# Altium schematic symbol library TI Microcontroller 32-Bit ARM.SchLib: 163 symbols (part 2 of 10)
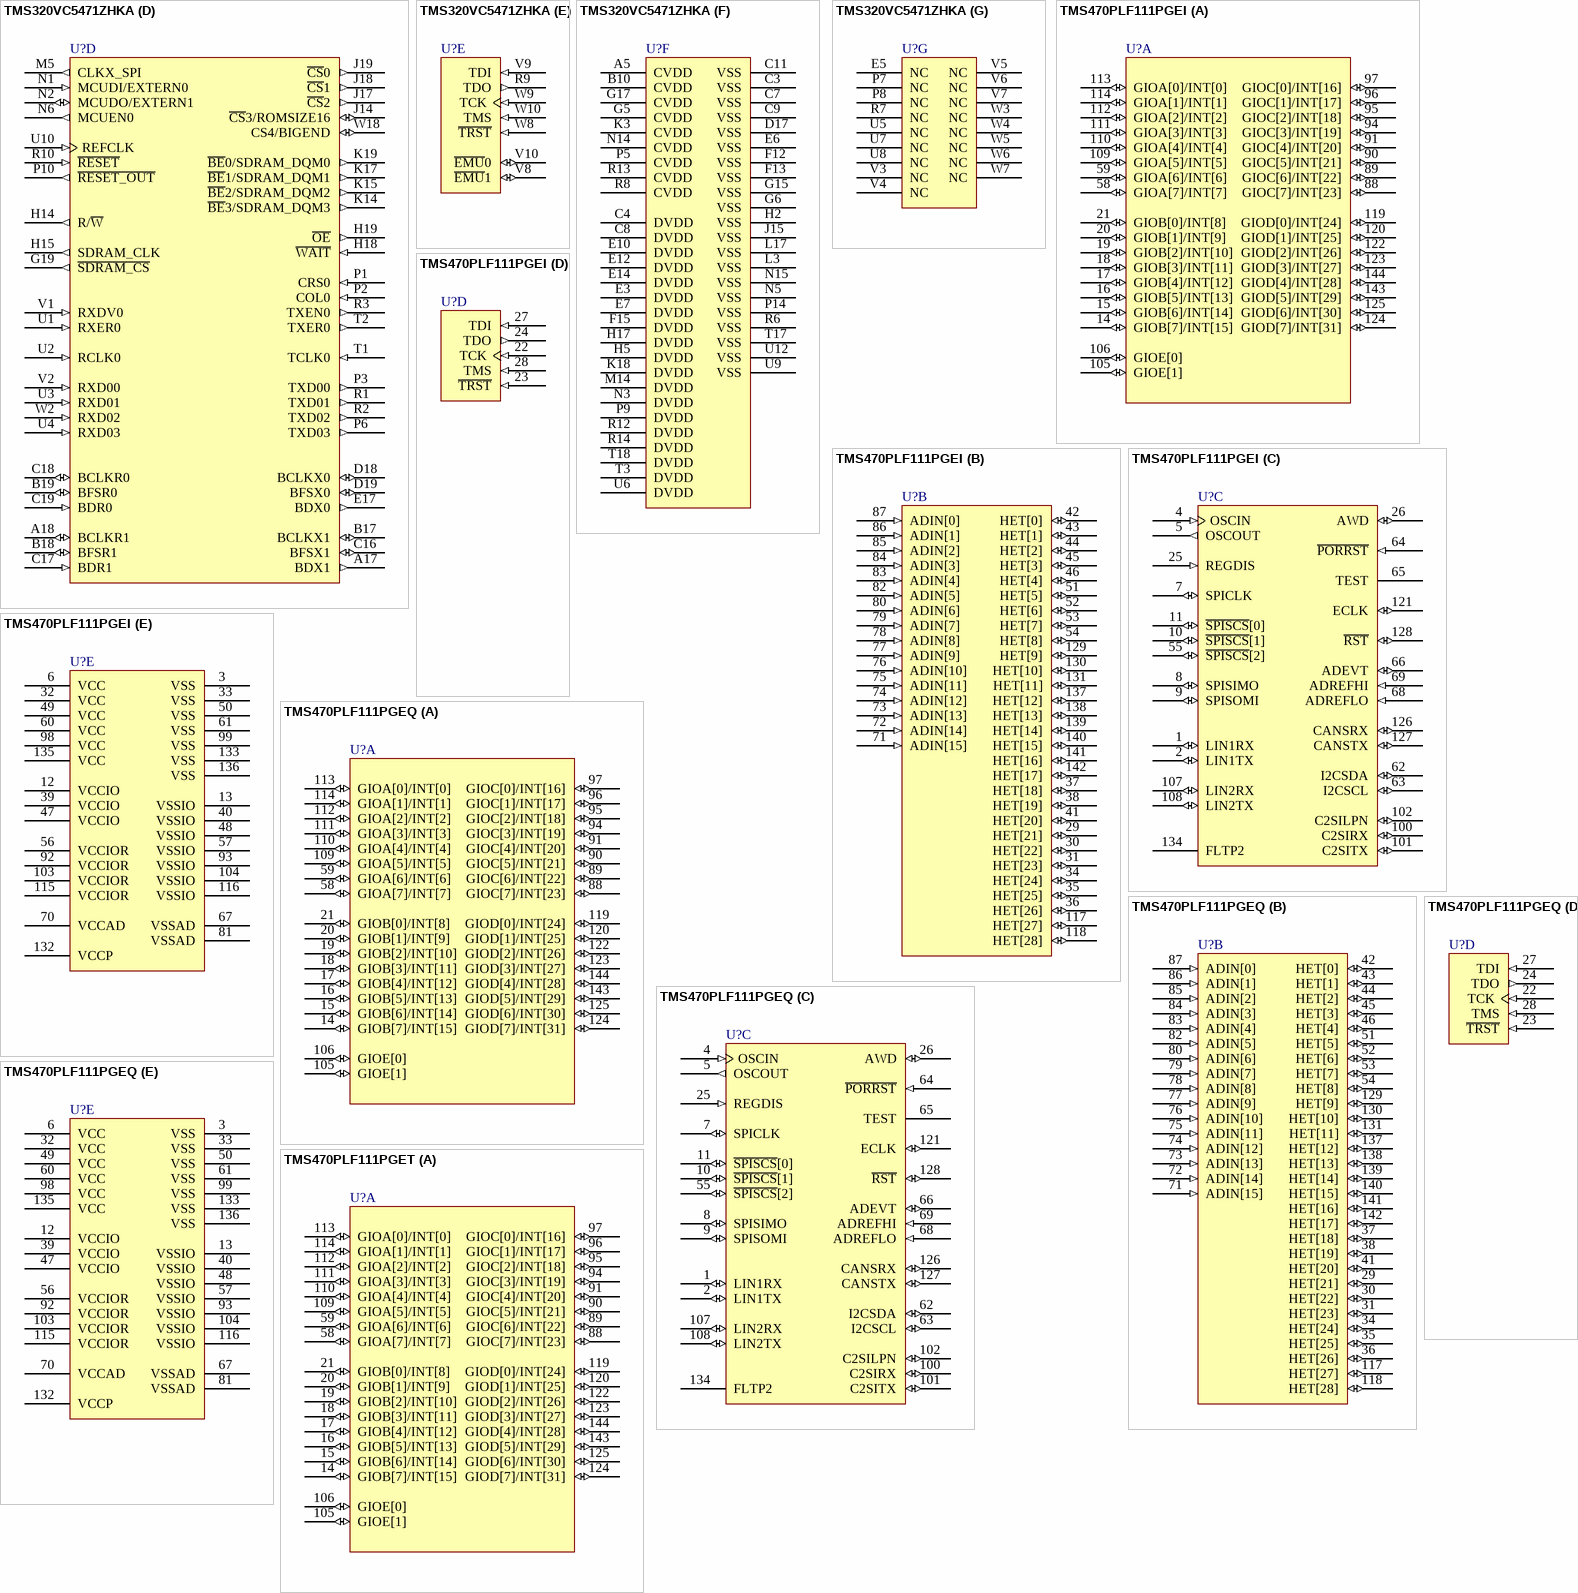
[diagram p53: symbols TMS320VC5471ZHKA to TMS470PLF111PGET]

## TMS470PLF111PGEQ
designator U?
ARM7TDMI 16/32-Bit RISC Automotive MCU, 128KB Flash, 8KB SRAM, 144-pin LQFP, -40ºC to 125ºC, Pb-Free; Published: 30-Mar-2007; DatasheetVersion: Oct-2006; PackageVersion: Dec-1996; PackageReference: PGE144; Publisher: Altium Limited; PackageDescription: 144-Pin Thin Quad Flat Pack 0.5 mm Pitch; ComponentLink1Description: Manufacturer Link; ComponentLink1URL: http://www.ti.com/; ComponentLink2Description: Datasheet; ComponentLink2URL: http://focus.ti.com/lit/ds/symlink/tms470plf111.pdf
footprint PGE144_N (Thin QFP, 144-Leads, Body 20x20mm, Pitch 0.5mm, IPC Medium Density)
footprint PGE144_L (Thin QFP, 144-Leads, Body 20x20mm, Pitch 0.5mm, IPC High Density)
footprint PGE144_M (Thin QFP, 144-Leads, Body 20x20mm, Pitch 0.5mm, IPC Low Density)
part A pins: 14 GIOB[7]/INT[15] (io), 15 GIOB[6]/INT[14] (io), 16 GIOB[5]/INT[13] (io), 17 GIOB[4]/INT[12] (io), 18 GIOB[3]/INT[11] (io), 19 GIOB[2]/INT[10] (io), 20 GIOB[1]/INT[9] (io), 21 GIOB[0]/INT[8] (io), 58 GIOA[7]/INT[7] (io), 59 GIOA[6]/INT[6] (io), 88 GIOC[7]/INT[23] (io), 89 GIOC[6]/INT[22] (io), 90 GIOC[5]/INT[21] (io), 91 GIOC[4]/INT[20] (io), 94 GIOC[3]/INT[19] (io), 95 GIOC[2]/INT[18] (io), 96 GIOC[1]/INT[17] (io), 97 GIOC[0]/INT[16] (io), 105 GIOE[1] (io), 106 GIOE[0] (io), 109 GIOA[5]/INT[5] (io), 110 GIOA[4]/INT[4] (io), 111 GIOA[3]/INT[3] (io), 112 GIOA[2]/INT[2] (io), 113 GIOA[0]/INT[0] (io), 114 GIOA[1]/INT[1] (io), 119 GIOD[0]/INT[24] (io), 120 GIOD[1]/INT[25] (io), 122 GIOD[2]/INT[26] (io), 123 GIOD[3]/INT[27] (io), 124 GIOD[7]/INT[31] (io), 125 GIOD[6]/INT[30] (io), 143 GIOD[5]/INT[29] (io), 144 GIOD[4]/INT[28] (io)
part B pins: 29 HET[21] (io), 30 HET[22] (io), 31 HET[23] (io), 34 HET[24] (io), 35 HET[25] (io), 36 HET[26] (io), 37 HET[18] (io), 38 HET[19] (io), 41 HET[20] (io), 42 HET[0] (io), 43 HET[1] (io), 44 HET[2] (io), 45 HET[3] (io), 46 HET[4] (io), 51 HET[5] (io), 52 HET[6] (io), 53 HET[7] (io), 54 HET[8] (io), 71 ADIN[15] (in), 72 ADIN[14] (in), 73 ADIN[13] (in), 74 ADIN[12] (in), 75 ADIN[11] (in), 76 ADIN[10] (in), 77 ADIN[9] (in), 78 ADIN[8] (in), 79 ADIN[7] (in), 80 ADIN[6] (in), 82 ADIN[5] (in), 83 ADIN[4] (in), 84 ADIN[3] (in), 85 ADIN[2] (in), 86 ADIN[1] (in), 87 ADIN[0] (in), 117 HET[27] (io), 118 HET[28] (io), 129 HET[9] (io), 130 HET[10] (io), 131 HET[11] (io), 137 HET[12] (io), 138 HET[13] (io), 139 HET[14] (io), 140 HET[15] (io), 141 HET[16] (io), 142 HET[17] (io)
part C pins: 1 LIN1RX (io), 2 LIN1TX (io), 4 OSCIN (in), 5 OSCOUT (out), 7 SPICLK (io), 8 SPISIMO (io), 9 SPISOMI (io), 10 ~{SPISCS}[1] (io), 11 ~{SPISCS}[0] (io), 25 REGDIS (in), 26 AWD (io), 55 ~{SPISCS}[2] (io), 62 I2CSDA (io), 63 I2CSCL (io), 64 ~{PORRST} (in), 65 TEST, 66 ADEVT (io), 68 ADREFLO (in), 69 ADREFHI (in), 100 C2SIRX (io), 101 C2SITX (io), 102 C2SILPN (io), 107 LIN2RX (io), 108 LIN2TX (io), 121 ECLK (io), 126 CANSRX (io), 127 CANSTX (io), 128 ~{RST} (io), 134 FLTP2
part D pins: 22 TCK (in), 23 ~{TRST} (in), 24 TDO (out), 27 TDI (in), 28 TMS (in)
part E pins: 3 VSS (power), 6 VCC (power), 12 VCCIO (power), 13 VSSIO (power), 32 VCC (power), 33 VSS (power), 39 VCCIO (power), 40 VSSIO (power), 47 VCCIO (power), 48 VSSIO (power), 49 VCC (power), 50 VSS (power), 56 VCCIOR (power), 57 VSSIO (power), 60 VCC (power), 61 VSS (power), 67 VSSAD (power), 70 VCCAD (power), 81 VSSAD (power), 92 VCCIOR (power), 93 VSSIO (power), 98 VCC (power), 99 VSS (power), 103 VCCIOR (power), 104 VSSIO (power), 115 VCCIOR (power), 116 VSSIO (power), 132 VCCP (power), 133 VSS (power), 135 VCC (power), 136 VSS (power)

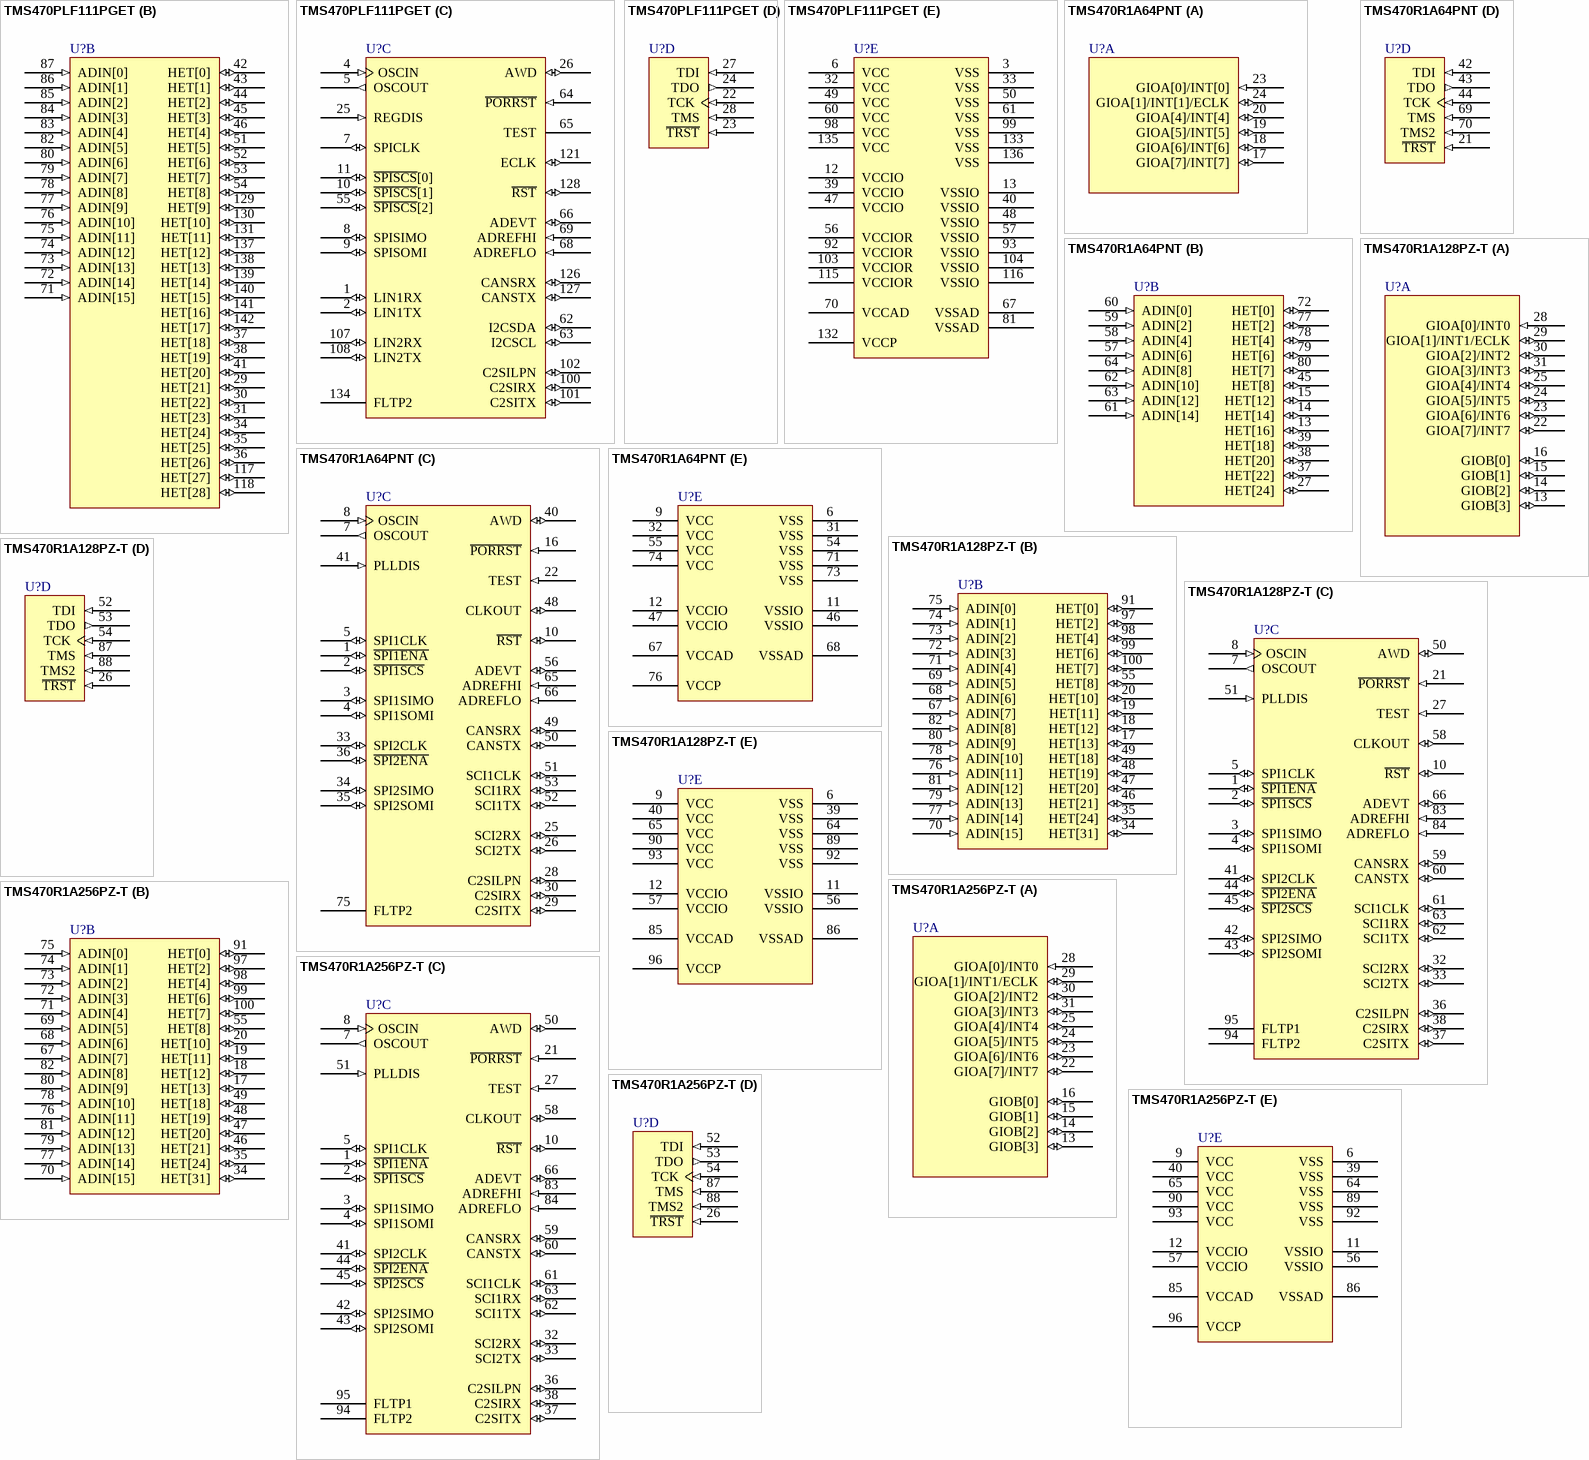
[diagram p6: symbols TMS470PLF111PGET to TMS470R1A256PZ-T]

## TMS470PLF111PGET
designator U?
ARM7TDMI 16/32-Bit RISC Automotive MCU, 128KB Flash, 8KB SRAM, 144-pin LQFP, -40ºC to 105ºC, Pb-Free; Published: 30-Mar-2007; DatasheetVersion: Oct-2006; PackageVersion: Dec-1996; PackageReference: PGE144; Publisher: Altium Limited; PackageDescription: 144-Pin Thin Quad Flat Pack 0.5 mm Pitch; ComponentLink1Description: Manufacturer Link; ComponentLink1URL: http://www.ti.com/; ComponentLink2Description: Datasheet; ComponentLink2URL: http://focus.ti.com/lit/ds/symlink/tms470plf111.pdf
footprint PGE144_N (Thin QFP, 144-Leads, Body 20x20mm, Pitch 0.5mm, IPC Medium Density)
footprint PGE144_L (Thin QFP, 144-Leads, Body 20x20mm, Pitch 0.5mm, IPC High Density)
footprint PGE144_M (Thin QFP, 144-Leads, Body 20x20mm, Pitch 0.5mm, IPC Low Density)
part A pins: 14 GIOB[7]/INT[15] (io), 15 GIOB[6]/INT[14] (io), 16 GIOB[5]/INT[13] (io), 17 GIOB[4]/INT[12] (io), 18 GIOB[3]/INT[11] (io), 19 GIOB[2]/INT[10] (io), 20 GIOB[1]/INT[9] (io), 21 GIOB[0]/INT[8] (io), 58 GIOA[7]/INT[7] (io), 59 GIOA[6]/INT[6] (io), 88 GIOC[7]/INT[23] (io), 89 GIOC[6]/INT[22] (io), 90 GIOC[5]/INT[21] (io), 91 GIOC[4]/INT[20] (io), 94 GIOC[3]/INT[19] (io), 95 GIOC[2]/INT[18] (io), 96 GIOC[1]/INT[17] (io), 97 GIOC[0]/INT[16] (io), 105 GIOE[1] (io), 106 GIOE[0] (io), 109 GIOA[5]/INT[5] (io), 110 GIOA[4]/INT[4] (io), 111 GIOA[3]/INT[3] (io), 112 GIOA[2]/INT[2] (io), 113 GIOA[0]/INT[0] (io), 114 GIOA[1]/INT[1] (io), 119 GIOD[0]/INT[24] (io), 120 GIOD[1]/INT[25] (io), 122 GIOD[2]/INT[26] (io), 123 GIOD[3]/INT[27] (io), 124 GIOD[7]/INT[31] (io), 125 GIOD[6]/INT[30] (io), 143 GIOD[5]/INT[29] (io), 144 GIOD[4]/INT[28] (io)
part B pins: 29 HET[21] (io), 30 HET[22] (io), 31 HET[23] (io), 34 HET[24] (io), 35 HET[25] (io), 36 HET[26] (io), 37 HET[18] (io), 38 HET[19] (io), 41 HET[20] (io), 42 HET[0] (io), 43 HET[1] (io), 44 HET[2] (io), 45 HET[3] (io), 46 HET[4] (io), 51 HET[5] (io), 52 HET[6] (io), 53 HET[7] (io), 54 HET[8] (io), 71 ADIN[15] (in), 72 ADIN[14] (in), 73 ADIN[13] (in), 74 ADIN[12] (in), 75 ADIN[11] (in), 76 ADIN[10] (in), 77 ADIN[9] (in), 78 ADIN[8] (in), 79 ADIN[7] (in), 80 ADIN[6] (in), 82 ADIN[5] (in), 83 ADIN[4] (in), 84 ADIN[3] (in), 85 ADIN[2] (in), 86 ADIN[1] (in), 87 ADIN[0] (in), 117 HET[27] (io), 118 HET[28] (io), 129 HET[9] (io), 130 HET[10] (io), 131 HET[11] (io), 137 HET[12] (io), 138 HET[13] (io), 139 HET[14] (io), 140 HET[15] (io), 141 HET[16] (io), 142 HET[17] (io)
part C pins: 1 LIN1RX (io), 2 LIN1TX (io), 4 OSCIN (in), 5 OSCOUT (out), 7 SPICLK (io), 8 SPISIMO (io), 9 SPISOMI (io), 10 ~{SPISCS}[1] (io), 11 ~{SPISCS}[0] (io), 25 REGDIS (in), 26 AWD (io), 55 ~{SPISCS}[2] (io), 62 I2CSDA (io), 63 I2CSCL (io), 64 ~{PORRST} (in), 65 TEST, 66 ADEVT (io), 68 ADREFLO (in), 69 ADREFHI (in), 100 C2SIRX (io), 101 C2SITX (io), 102 C2SILPN (io), 107 LIN2RX (io), 108 LIN2TX (io), 121 ECLK (io), 126 CANSRX (io), 127 CANSTX (io), 128 ~{RST} (io), 134 FLTP2
part D pins: 22 TCK (in), 23 ~{TRST} (in), 24 TDO (out), 27 TDI (in), 28 TMS (in)
part E pins: 3 VSS (power), 6 VCC (power), 12 VCCIO (power), 13 VSSIO (power), 32 VCC (power), 33 VSS (power), 39 VCCIO (power), 40 VSSIO (power), 47 VCCIO (power), 48 VSSIO (power), 49 VCC (power), 50 VSS (power), 56 VCCIOR (power), 57 VSSIO (power), 60 VCC (power), 61 VSS (power), 67 VSSAD (power), 70 VCCAD (power), 81 VSSAD (power), 92 VCCIOR (power), 93 VSSIO (power), 98 VCC (power), 99 VSS (power), 103 VCCIOR (power), 104 VSSIO (power), 115 VCCIOR (power), 116 VSSIO (power), 132 VCCP (power), 133 VSS (power), 135 VCC (power), 136 VSS (power)

## TMS470R1A64PNT
designator U?
ARM7TDMI 16/32-Bit RISC Industrial MCU, 64KB Flash, 8KB RAM, 80-pin LQFP, -40ºC to 105ºC, Pb-Free; Published: 30-Mar-2007; DatasheetVersion: Aug-2006; PackageVersion: Dec-1996; PackageReference: PN080; Publisher: Altium Limited; PackageDescription: 80-Pin Thin Quad Flat Pack 0.5 mm Pitch; ComponentLink1Description: Manufacturer Link; ComponentLink1URL: http://www.ti.com/; ComponentLink2Description: Datasheet; ComponentLink2URL: http://focus.ti.com/lit/ds/symlink/tms470r1a64.pdf
footprint PN080_N (Thin QFP, 80-Leads, Body 12x12mm, Pitch 0.5mm, IPC Medium Density)
footprint PN080_L (Thin QFP, 80-Leads, Body 12x12mm, Pitch 0.5mm, IPC High Density)
footprint PN080_M (Thin QFP, 80-Leads, Body 12x12mm, Pitch 0.5mm, IPC Low Density)
part A pins: 17 GIOA[7]/INT[7] (io), 18 GIOA[6]/INT[6] (io), 19 GIOA[5]/INT[5] (io), 20 GIOA[4]/INT[4] (io), 23 GIOA[0]/INT[0] (in), 24 GIOA[1]/INT[1]/ECLK (io)
part B pins: 13 HET[16] (io), 14 HET[14] (io), 15 HET[12] (io), 27 HET[24] (io), 37 HET[22] (io), 38 HET[20] (io), 39 HET[18] (io), 45 HET[8] (io), 57 ADIN[6] (in), 58 ADIN[4] (in), 59 ADIN[2] (in), 60 ADIN[0] (in), 61 ADIN[14] (in), 62 ADIN[10] (in), 63 ADIN[12] (in), 64 ADIN[8] (in), 72 HET[0] (io), 77 HET[2] (io), 78 HET[4] (io), 79 HET[6] (io), 80 HET[7] (io)
part C pins: 1 ~{SPI1ENA} (io), 2 ~{SPI1SCS} (io), 3 SPI1SIMO (io), 4 SPI1SOMI (io), 5 SPI1CLK (io), 7 OSCOUT (out), 8 OSCIN (in), 10 ~{RST} (io), 16 ~{PORRST} (in), 22 TEST (in), 25 SCI2RX (io), 26 SCI2TX (io), 28 C2SILPN (io), 29 C2SITX (io), 30 C2SIRX (io), 33 SPI2CLK (io), 34 SPI2SIMO (io), 35 SPI2SOMI (io), 36 ~{SPI2ENA} (io), 40 AWD (io), 41 PLLDIS (in), 48 CLKOUT (io), 49 CANSRX (io), 50 CANSTX (io), 51 SCI1CLK (io), 52 SCI1TX (io), 53 SCI1RX (io), 56 ADEVT (io), 65 ADREFHI (in), 66 ADREFLO (in), 75 FLTP2
part D pins: 21 ~{TRST} (in), 42 TDI (in), 43 TDO (out), 44 TCK (in), 69 TMS (in), 70 TMS2 (in)
part E pins: 6 VSS (power), 9 VCC (power), 11 VSSIO (power), 12 VCCIO (power), 31 VSS (power), 32 VCC (power), 46 VSSIO (power), 47 VCCIO (power), 54 VSS (power), 55 VCC (power), 67 VCCAD (power), 68 VSSAD (power), 71 VSS (power), 73 VSS (power), 74 VCC (power), 76 VCCP (power)

## TMS470R1A128PZ-T
designator U?
ARM7TDMI 16/32-Bit RISC Industrial MCU, 128KB Flash, 8KB RAM, 100-pin LQFP, -40ºC to 105ºC, Pb-Free; Published: 30-Mar-2007; DatasheetVersion: Aug-2006; PackageVersion: Dec-1996; PackageReference: PZ100; Publisher: Altium Limited; PackageDescription: 100-Pin Thin Quad Flat Pack 0.5 mm Pitch; ComponentLink1Description: Manufacturer Link; ComponentLink1URL: http://www.ti.com/; ComponentLink2Description: Datasheet; ComponentLink2URL: http://focus.ti.com/lit/ds/symlink/tms470r1a128.pdf
footprint PZ100_N (Thin QFP, 100-Leads, Body 14x14mm, Pitch 0.5mm, IPC Medium Density)
footprint PZ100_L (Thin QFP, 100-Leads, Body 14x14mm, Pitch 0.5mm, IPC High Density)
footprint PZ100_M (Thin QFP, 100-Leads, Body 14x14mm, Pitch 0.5mm, IPC Low Density)
part A pins: 13 GIOB[3] (io), 14 GIOB[2] (io), 15 GIOB[1] (io), 16 GIOB[0] (io), 22 GIOA[7]/INT7 (io), 23 GIOA[6]/INT6 (io), 24 GIOA[5]/INT5 (io), 25 GIOA[4]/INT4 (io), 28 GIOA[0]/INT0 (in), 29 GIOA[1]/INT1/ECLK (io), 30 GIOA[2]/INT2 (io), 31 GIOA[3]/INT3 (io)
part B pins: 17 HET[13] (io), 18 HET[12] (io), 19 HET[11] (io), 20 HET[10] (io), 34 HET[31] (io), 35 HET[24] (io), 46 HET[21] (io), 47 HET[20] (io), 48 HET[19] (io), 49 HET[18] (io), 55 HET[8] (io), 67 ADIN[7] (in), 68 ADIN[6] (in), 69 ADIN[5] (in), 70 ADIN[15] (in), 71 ADIN[4] (in), 72 ADIN[3] (in), 73 ADIN[2] (in), 74 ADIN[1] (in), 75 ADIN[0] (in), 76 ADIN[11] (in), 77 ADIN[14] (in), 78 ADIN[10] (in), 79 ADIN[13] (in), 80 ADIN[9] (in), 81 ADIN[12] (in), 82 ADIN[8] (in), 91 HET[0] (io), 97 HET[2] (io), 98 HET[4] (io), 99 HET[6] (io), 100 HET[7] (io)
part C pins: 1 ~{SPI1ENA} (io), 2 ~{SPI1SCS} (io), 3 SPI1SIMO (io), 4 SPI1SOMI (io), 5 SPI1CLK (io), 7 OSCOUT (out), 8 OSCIN (in), 10 ~{RST} (io), 21 ~{PORRST} (in), 27 TEST (in), 32 SCI2RX (io), 33 SCI2TX (io), 36 C2SILPN (io), 37 C2SITX (io), 38 C2SIRX (io), 41 SPI2CLK (io), 42 SPI2SIMO (io), 43 SPI2SOMI (io), 44 ~{SPI2ENA} (io), 45 ~{SPI2SCS} (io), 50 AWD (io), 51 PLLDIS (in), 58 CLKOUT (io), 59 CANSRX (io), 60 CANSTX (io), 61 SCI1CLK (io), 62 SCI1TX (io), 63 SCI1RX (io), 66 ADEVT (io), 83 ADREFHI (in), 84 ADREFLO (in), 94 FLTP2, 95 FLTP1
part D pins: 26 ~{TRST} (in), 52 TDI (in), 53 TDO (out), 54 TCK (in), 87 TMS (in), 88 TMS2 (in)
part E pins: 6 VSS (power), 9 VCC (power), 11 VSSIO (power), 12 VCCIO (power), 39 VSS (power), 40 VCC (power), 56 VSSIO (power), 57 VCCIO (power), 64 VSS (power), 65 VCC (power), 85 VCCAD (power), 86 VSSAD (power), 89 VSS (power), 90 VCC (power), 92 VSS (power), 93 VCC (power), 96 VCCP (power)

## TMS470R1A256PZ-T
designator U?
ARM7TDMI 16/32-Bit RISC Industrial MCU, 256KB Flash, 12KB RAM, 100-pin LQFP, -40ºC to 105ºC, Pb-Free; Note: This device has logic and registers for 32-I/O HET implementation, however not all are available on external pins.; Published: 30-Mar-2007; DatasheetVersion: Aug-2006; PackageVersion: Dec-1996; PackageReference: PZ100; Publisher: Altium Limited; PackageDescription: 100-Pin Thin Quad Flat Pack 0.5 mm Pitch; ComponentLink1Description: Manufacturer Link; ComponentLink1URL: http://www.ti.com/; ComponentLink2Description: Datasheet; ComponentLink2URL: http://focus.ti.com/lit/ds/symlink/tms470r1a256.pdf
footprint PZ100_N (Thin QFP, 100-Leads, Body 14x14mm, Pitch 0.5mm, IPC Medium Density)
footprint PZ100_L (Thin QFP, 100-Leads, Body 14x14mm, Pitch 0.5mm, IPC High Density)
footprint PZ100_M (Thin QFP, 100-Leads, Body 14x14mm, Pitch 0.5mm, IPC Low Density)
part A pins: 13 GIOB[3] (io), 14 GIOB[2] (io), 15 GIOB[1] (io), 16 GIOB[0] (io), 22 GIOA[7]/INT7 (io), 23 GIOA[6]/INT6 (io), 24 GIOA[5]/INT5 (io), 25 GIOA[4]/INT4 (io), 28 GIOA[0]/INT0 (in), 29 GIOA[1]/INT1/ECLK (io), 30 GIOA[2]/INT2 (io), 31 GIOA[3]/INT3 (io)
part B pins: 17 HET[13] (io), 18 HET[12] (io), 19 HET[11] (io), 20 HET[10] (io), 34 HET[31] (io), 35 HET[24] (io), 46 HET[21] (io), 47 HET[20] (io), 48 HET[19] (io), 49 HET[18] (io), 55 HET[8] (io), 67 ADIN[7] (in), 68 ADIN[6] (in), 69 ADIN[5] (in), 70 ADIN[15] (in), 71 ADIN[4] (in), 72 ADIN[3] (in), 73 ADIN[2] (in), 74 ADIN[1] (in), 75 ADIN[0] (in), 76 ADIN[11] (in), 77 ADIN[14] (in), 78 ADIN[10] (in), 79 ADIN[13] (in), 80 ADIN[9] (in), 81 ADIN[12] (in), 82 ADIN[8] (in), 91 HET[0] (io), 97 HET[2] (io), 98 HET[4] (io), 99 HET[6] (io), 100 HET[7] (io)
part C pins: 1 ~{SPI1ENA} (io), 2 ~{SPI1SCS} (io), 3 SPI1SIMO (io), 4 SPI1SOMI (io), 5 SPI1CLK (io), 7 OSCOUT (out), 8 OSCIN (in), 10 ~{RST} (io), 21 ~{PORRST} (in), 27 TEST (in), 32 SCI2RX (io), 33 SCI2TX (io), 36 C2SILPN (io), 37 C2SITX (io), 38 C2SIRX (io), 41 SPI2CLK (io), 42 SPI2SIMO (io), 43 SPI2SOMI (io), 44 ~{SPI2ENA} (io), 45 ~{SPI2SCS} (io), 50 AWD (io), 51 PLLDIS (in), 58 CLKOUT (io), 59 CANSRX (io), 60 CANSTX (io), 61 SCI1CLK (io), 62 SCI1TX (io), 63 SCI1RX (io), 66 ADEVT (io), 83 ADREFHI (in), 84 ADREFLO (in), 94 FLTP2, 95 FLTP1
part D pins: 26 ~{TRST} (in), 52 TDI (in), 53 TDO (out), 54 TCK (in), 87 TMS (in), 88 TMS2 (in)
part E pins: 6 VSS (power), 9 VCC (power), 11 VSSIO (power), 12 VCCIO (power), 39 VSS (power), 40 VCC (power), 56 VSSIO (power), 57 VCCIO (power), 64 VSS (power), 65 VCC (power), 85 VCCAD (power), 86 VSSAD (power), 89 VSS (power), 90 VCC (power), 92 VSS (power), 93 VCC (power), 96 VCCP (power)

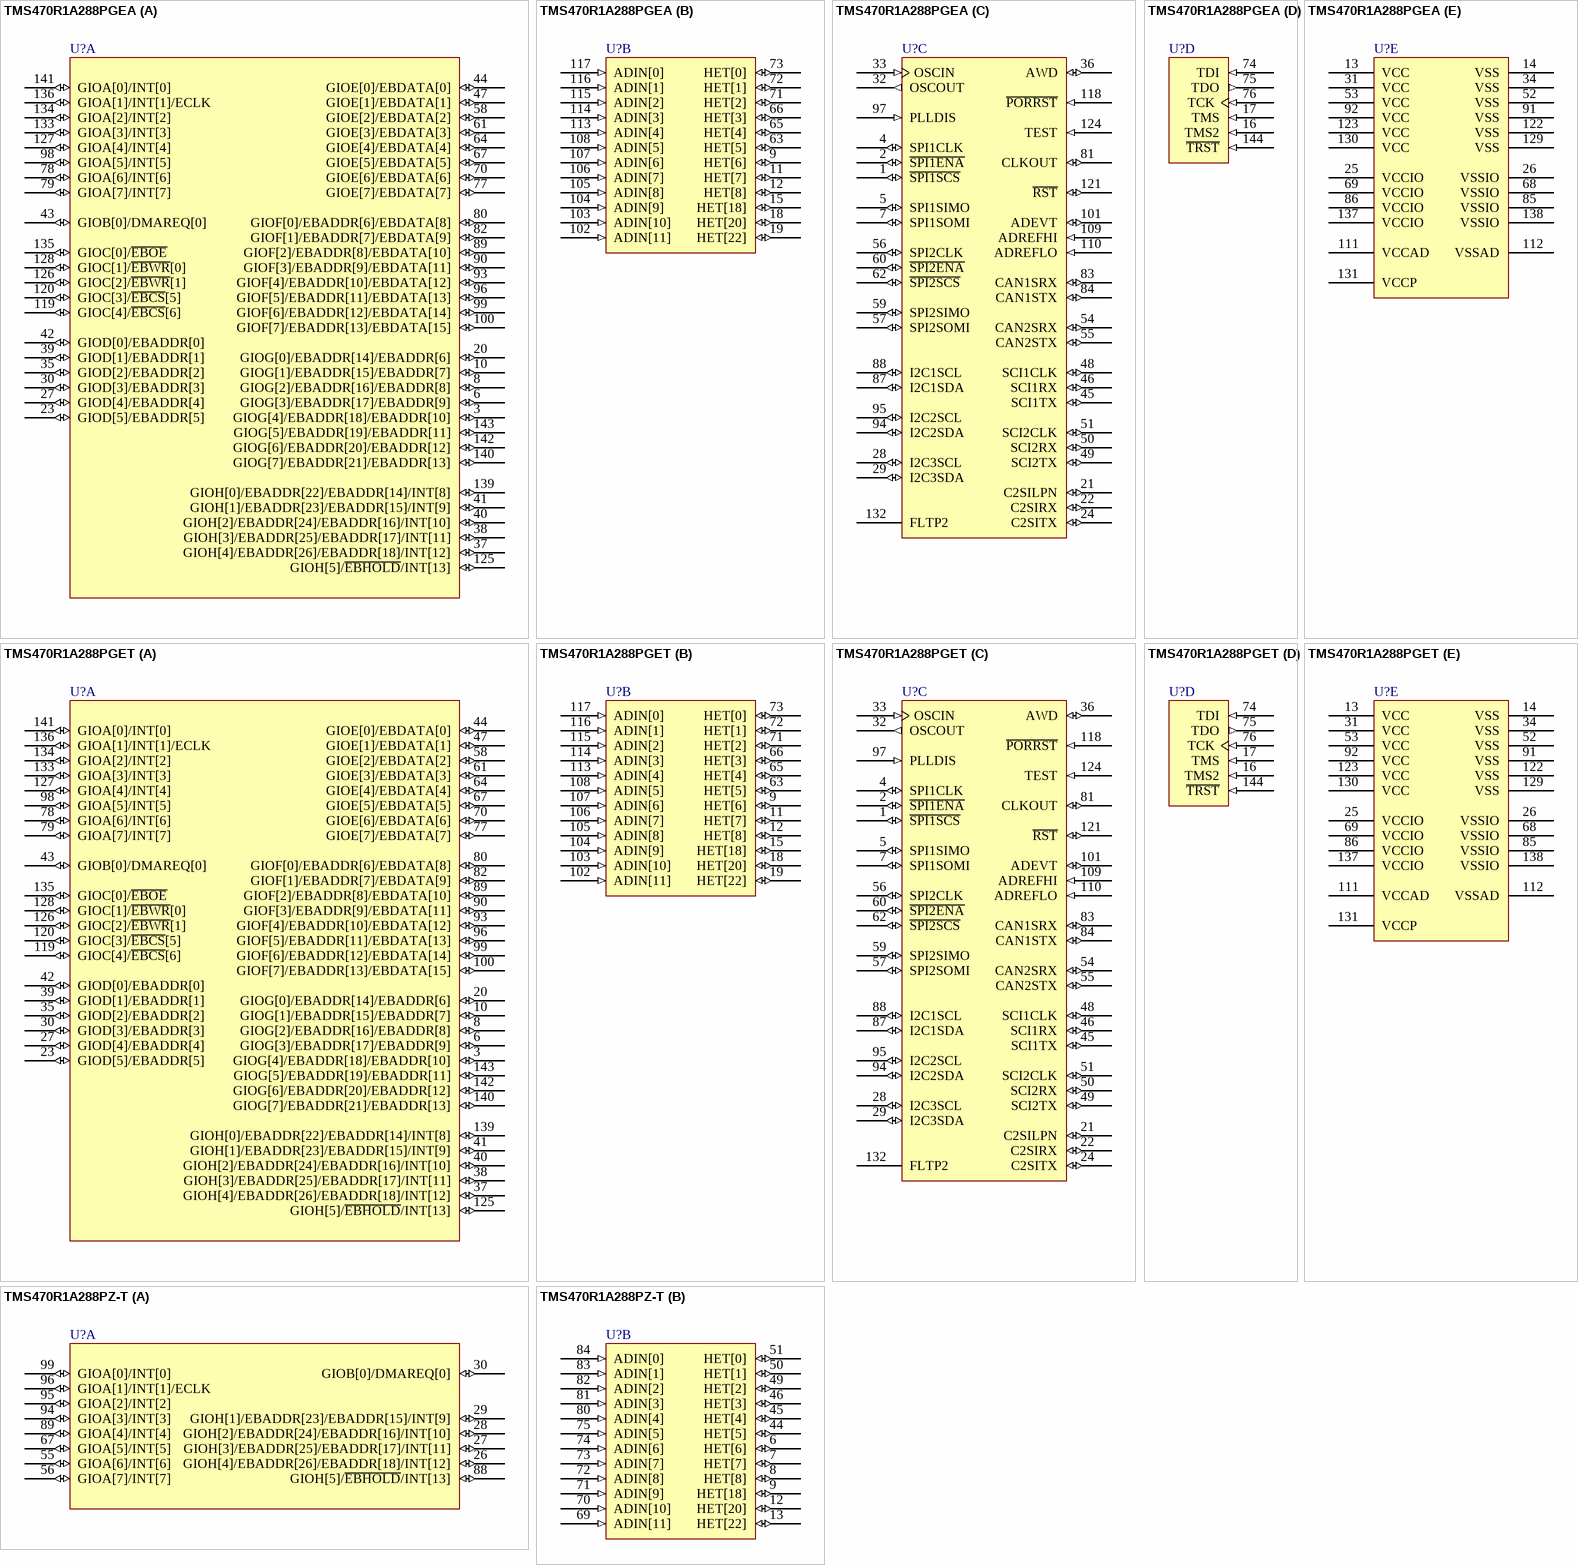
[diagram p7: symbols TMS470R1A288PGEA to TMS470R1A288PZ-T]

## TMS470R1A288PGEA
designator U?
ARM7TDMI 16/32-Bit RISC Industrial MCU, 288KB Flash, 16KB RAM, 144-pin LQFP, -40ºC to 85ºC, Pb-Free; Published: 30-Mar-2007; DatasheetVersion: Aug-2006; PackageVersion: Dec-1996; PackageReference: PGE144; Publisher: Altium Limited; PackageDescription: 144-Pin Thin Quad Flat Pack 0.5 mm Pitch; ComponentLink1Description: Manufacturer Link; ComponentLink1URL: http://www.ti.com/; ComponentLink2Description: Datasheet; ComponentLink2URL: http://focus.ti.com/lit/ds/symlink/tms470r1a288.pdf
footprint PGE144_N (Thin QFP, 144-Leads, Body 20x20mm, Pitch 0.5mm, IPC Medium Density)
footprint PGE144_L (Thin QFP, 144-Leads, Body 20x20mm, Pitch 0.5mm, IPC High Density)
footprint PGE144_M (Thin QFP, 144-Leads, Body 20x20mm, Pitch 0.5mm, IPC Low Density)
part A pins: 3 GIOG[4]/EBADDR[18]/EBADDR[10] (io), 6 GIOG[3]/EBADDR[17]/EBADDR[9] (io), 8 GIOG[2]/EBADDR[16]/EBADDR[8] (io), 10 GIOG[1]/EBADDR[15]/EBADDR[7] (io), 20 GIOG[0]/EBADDR[14]/EBADDR[6] (io), 23 GIOD[5]/EBADDR[5] (io), 27 GIOD[4]/EBADDR[4] (io), 30 GIOD[3]/EBADDR[3] (io), 35 GIOD[2]/EBADDR[2] (io), 37 GIOH[4]/EBADDR[26]/EBADDR[18]/INT[12] (io), 38 GIOH[3]/EBADDR[25]/EBADDR[17]/INT[11] (io), 39 GIOD[1]/EBADDR[1] (io), 40 GIOH[2]/EBADDR[24]/EBADDR[16]/INT[10] (io), 41 GIOH[1]/EBADDR[23]/EBADDR[15]/INT[9] (io), 42 GIOD[0]/EBADDR[0] (io), 43 GIOB[0]/DMAREQ[0] (io), 44 GIOE[0]/EBDATA[0] (io), 47 GIOE[1]/EBDATA[1] (io), 58 GIOE[2]/EBDATA[2] (io), 61 GIOE[3]/EBDATA[3] (io), 64 GIOE[4]/EBDATA[4] (io), 67 GIOE[5]/EBDATA[5] (io), 70 GIOE[6]/EBDATA[6] (io), 77 GIOE[7]/EBDATA[7] (io), 78 GIOA[6]/INT[6] (io), 79 GIOA[7]/INT[7] (io), 80 GIOF[0]/EBADDR[6]/EBDATA[8] (io), 82 GIOF[1]/EBADDR[7]/EBDATA[9] (io), 89 GIOF[2]/EBADDR[8]/EBDATA[10] (io), 90 GIOF[3]/EBADDR[9]/EBDATA[11] (io), 93 GIOF[4]/EBADDR[10]/EBDATA[12] (io), 96 GIOF[5]/EBADDR[11]/EBDATA[13] (io), 98 GIOA[5]/INT[5] (io), 99 GIOF[6]/EBADDR[12]/EBDATA[14] (io), 100 GIOF[7]/EBADDR[13]/EBDATA[15] (io), 119 GIOC[4]/~{EBCS}[6] (io), 120 GIOC[3]/~{EBCS}[5] (io), 125 GIOH[5]/~{EBHOLD}/INT[13] (io), 126 GIOC[2]/~{EBWR}[1] (io), 127 GIOA[4]/INT[4] (io), 128 GIOC[1]/~{EBWR}[0] (io), 133 GIOA[3]/INT[3] (io), 134 GIOA[2]/INT[2] (io), 135 GIOC[0]/~{EBOE} (io), 136 GIOA[1]/INT[1]/ECLK (io), 139 GIOH[0]/EBADDR[22]/EBADDR[14]/INT[8] (io), 140 GIOG[7]/EBADDR[21]/EBADDR[13] (io), 141 GIOA[0]/INT[0] (io), 142 GIOG[6]/EBADDR[20]/EBADDR[12] (io), 143 GIOG[5]/EBADDR[19]/EBADDR[11] (io)
part B pins: 9 HET[6] (io), 11 HET[7] (io), 12 HET[8] (io), 15 HET[18] (io), 18 HET[20] (io), 19 HET[22] (io), 63 HET[5] (io), 65 HET[4] (io), 66 HET[3] (io), 71 HET[2] (io), 72 HET[1] (io), 73 HET[0] (io), 102 ADIN[11] (in), 103 ADIN[10] (in), 104 ADIN[9] (in), 105 ADIN[8] (in), 106 ADIN[7] (in), 107 ADIN[6] (in), 108 ADIN[5] (in), 113 ADIN[4] (in), 114 ADIN[3] (in), 115 ADIN[2] (in), 116 ADIN[1] (in), 117 ADIN[0] (in)
part C pins: 1 ~{SPI1SCS} (io), 2 ~{SPI1ENA} (io), 4 SPI1CLK (io), 5 SPI1SIMO (io), 7 SPI1SOMI (io), 21 C2SILPN (io), 22 C2SIRX (io), 24 C2SITX (io), 28 I2C3SCL (io), 29 I2C3SDA (io), 32 OSCOUT (out), 33 OSCIN (in), 36 AWD (io), 45 SCI1TX (io), 46 SCI1RX (io), 48 SCI1CLK (io), 49 SCI2TX (io), 50 SCI2RX (io), 51 SCI2CLK (io), 54 CAN2SRX (io), 55 CAN2STX (io), 56 SPI2CLK (io), 57 SPI2SOMI (io), 59 SPI2SIMO (io), 60 ~{SPI2ENA} (io), 62 ~{SPI2SCS} (io), 81 CLKOUT (io), 83 CAN1SRX (io), 84 CAN1STX (io), 87 I2C1SDA (io), 88 I2C1SCL (io), 94 I2C2SDA (io), 95 I2C2SCL (io), 97 PLLDIS (in), 101 ADEVT (io), 109 ADREFHI (in), 110 ADREFLO (in), 118 ~{PORRST} (in), 121 ~{RST} (io), 124 TEST (in), 132 FLTP2
part D pins: 16 TMS2 (in), 17 TMS (in), 74 TDI (in), 75 TDO (out), 76 TCK (in), 144 ~{TRST} (in)
part E pins: 13 VCC (power), 14 VSS (power), 25 VCCIO (power), 26 VSSIO (power), 31 VCC (power), 34 VSS (power), 52 VSS (power), 53 VCC (power), 68 VSSIO (power), 69 VCCIO (power), 85 VSSIO (power), 86 VCCIO (power), 91 VSS (power), 92 VCC (power), 111 VCCAD (power), 112 VSSAD (power), 122 VSS (power), 123 VCC (power), 129 VSS (power), 130 VCC (power), 131 VCCP (power), 137 VCCIO (power), 138 VSSIO (power)

## TMS470R1A288PGET
designator U?
ARM7TDMI 16/32-Bit RISC Industrial MCU, 288KB Flash, 16KB RAM, 144-pin LQFP, -40ºC to 105ºC, Pb-Free; Published: 30-Mar-2007; DatasheetVersion: Aug-2006; PackageVersion: Dec-1996; PackageReference: PGE144; Publisher: Altium Limited; PackageDescription: 144-Pin Thin Quad Flat Pack 0.5 mm Pitch; ComponentLink1Description: Manufacturer Link; ComponentLink1URL: http://www.ti.com/; ComponentLink2Description: Datasheet; ComponentLink2URL: http://focus.ti.com/lit/ds/symlink/tms470r1a288.pdf
footprint PGE144_N (Thin QFP, 144-Leads, Body 20x20mm, Pitch 0.5mm, IPC Medium Density)
footprint PGE144_L (Thin QFP, 144-Leads, Body 20x20mm, Pitch 0.5mm, IPC High Density)
footprint PGE144_M (Thin QFP, 144-Leads, Body 20x20mm, Pitch 0.5mm, IPC Low Density)
part A pins: 3 GIOG[4]/EBADDR[18]/EBADDR[10] (io), 6 GIOG[3]/EBADDR[17]/EBADDR[9] (io), 8 GIOG[2]/EBADDR[16]/EBADDR[8] (io), 10 GIOG[1]/EBADDR[15]/EBADDR[7] (io), 20 GIOG[0]/EBADDR[14]/EBADDR[6] (io), 23 GIOD[5]/EBADDR[5] (io), 27 GIOD[4]/EBADDR[4] (io), 30 GIOD[3]/EBADDR[3] (io), 35 GIOD[2]/EBADDR[2] (io), 37 GIOH[4]/EBADDR[26]/EBADDR[18]/INT[12] (io), 38 GIOH[3]/EBADDR[25]/EBADDR[17]/INT[11] (io), 39 GIOD[1]/EBADDR[1] (io), 40 GIOH[2]/EBADDR[24]/EBADDR[16]/INT[10] (io), 41 GIOH[1]/EBADDR[23]/EBADDR[15]/INT[9] (io), 42 GIOD[0]/EBADDR[0] (io), 43 GIOB[0]/DMAREQ[0] (io), 44 GIOE[0]/EBDATA[0] (io), 47 GIOE[1]/EBDATA[1] (io), 58 GIOE[2]/EBDATA[2] (io), 61 GIOE[3]/EBDATA[3] (io), 64 GIOE[4]/EBDATA[4] (io), 67 GIOE[5]/EBDATA[5] (io), 70 GIOE[6]/EBDATA[6] (io), 77 GIOE[7]/EBDATA[7] (io), 78 GIOA[6]/INT[6] (io), 79 GIOA[7]/INT[7] (io), 80 GIOF[0]/EBADDR[6]/EBDATA[8] (io), 82 GIOF[1]/EBADDR[7]/EBDATA[9] (io), 89 GIOF[2]/EBADDR[8]/EBDATA[10] (io), 90 GIOF[3]/EBADDR[9]/EBDATA[11] (io), 93 GIOF[4]/EBADDR[10]/EBDATA[12] (io), 96 GIOF[5]/EBADDR[11]/EBDATA[13] (io), 98 GIOA[5]/INT[5] (io), 99 GIOF[6]/EBADDR[12]/EBDATA[14] (io), 100 GIOF[7]/EBADDR[13]/EBDATA[15] (io), 119 GIOC[4]/~{EBCS}[6] (io), 120 GIOC[3]/~{EBCS}[5] (io), 125 GIOH[5]/~{EBHOLD}/INT[13] (io), 126 GIOC[2]/~{EBWR}[1] (io), 127 GIOA[4]/INT[4] (io), 128 GIOC[1]/~{EBWR}[0] (io), 133 GIOA[3]/INT[3] (io), 134 GIOA[2]/INT[2] (io), 135 GIOC[0]/~{EBOE} (io), 136 GIOA[1]/INT[1]/ECLK (io), 139 GIOH[0]/EBADDR[22]/EBADDR[14]/INT[8] (io), 140 GIOG[7]/EBADDR[21]/EBADDR[13] (io), 141 GIOA[0]/INT[0] (io), 142 GIOG[6]/EBADDR[20]/EBADDR[12] (io), 143 GIOG[5]/EBADDR[19]/EBADDR[11] (io)
part B pins: 9 HET[6] (io), 11 HET[7] (io), 12 HET[8] (io), 15 HET[18] (io), 18 HET[20] (io), 19 HET[22] (io), 63 HET[5] (io), 65 HET[4] (io), 66 HET[3] (io), 71 HET[2] (io), 72 HET[1] (io), 73 HET[0] (io), 102 ADIN[11] (in), 103 ADIN[10] (in), 104 ADIN[9] (in), 105 ADIN[8] (in), 106 ADIN[7] (in), 107 ADIN[6] (in), 108 ADIN[5] (in), 113 ADIN[4] (in), 114 ADIN[3] (in), 115 ADIN[2] (in), 116 ADIN[1] (in), 117 ADIN[0] (in)
part C pins: 1 ~{SPI1SCS} (io), 2 ~{SPI1ENA} (io), 4 SPI1CLK (io), 5 SPI1SIMO (io), 7 SPI1SOMI (io), 21 C2SILPN (io), 22 C2SIRX (io), 24 C2SITX (io), 28 I2C3SCL (io), 29 I2C3SDA (io), 32 OSCOUT (out), 33 OSCIN (in), 36 AWD (io), 45 SCI1TX (io), 46 SCI1RX (io), 48 SCI1CLK (io), 49 SCI2TX (io), 50 SCI2RX (io), 51 SCI2CLK (io), 54 CAN2SRX (io), 55 CAN2STX (io), 56 SPI2CLK (io), 57 SPI2SOMI (io), 59 SPI2SIMO (io), 60 ~{SPI2ENA} (io), 62 ~{SPI2SCS} (io), 81 CLKOUT (io), 83 CAN1SRX (io), 84 CAN1STX (io), 87 I2C1SDA (io), 88 I2C1SCL (io), 94 I2C2SDA (io), 95 I2C2SCL (io), 97 PLLDIS (in), 101 ADEVT (io), 109 ADREFHI (in), 110 ADREFLO (in), 118 ~{PORRST} (in), 121 ~{RST} (io), 124 TEST (in), 132 FLTP2
part D pins: 16 TMS2 (in), 17 TMS (in), 74 TDI (in), 75 TDO (out), 76 TCK (in), 144 ~{TRST} (in)
part E pins: 13 VCC (power), 14 VSS (power), 25 VCCIO (power), 26 VSSIO (power), 31 VCC (power), 34 VSS (power), 52 VSS (power), 53 VCC (power), 68 VSSIO (power), 69 VCCIO (power), 85 VSSIO (power), 86 VCCIO (power), 91 VSS (power), 92 VCC (power), 111 VCCAD (power), 112 VSSAD (power), 122 VSS (power), 123 VCC (power), 129 VSS (power), 130 VCC (power), 131 VCCP (power), 137 VCCIO (power), 138 VSSIO (power)

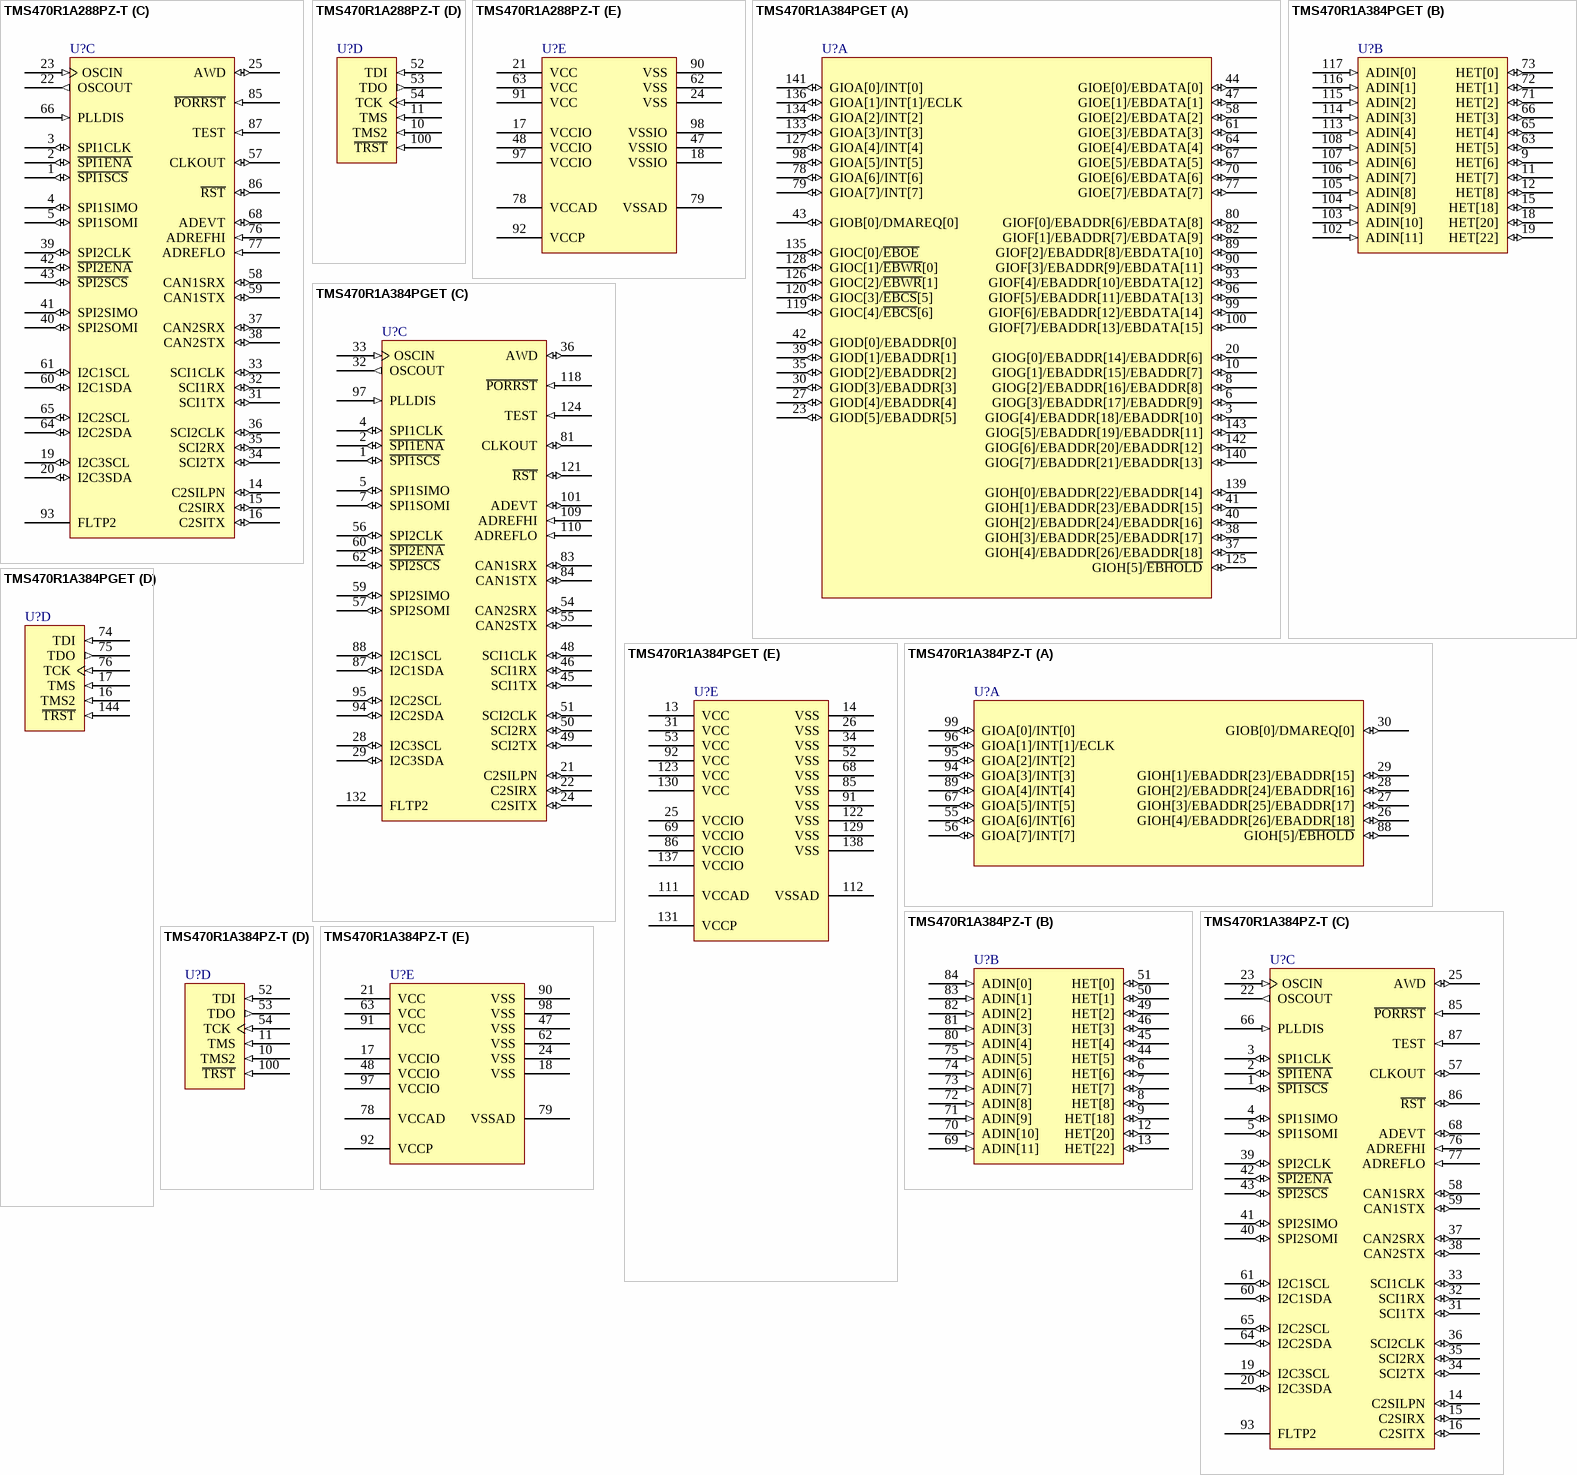
[diagram p8: symbols TMS470R1A288PZ-T to TMS470R1A384PZ-T]

## TMS470R1A288PZ-T
designator U?
ARM7TDMI 16/32-Bit RISC Industrial MCU, 288KB Flash, 16KB RAM, 100-pin LQFP, -40ºC to 105ºC, Pb-Free; Published: 30-Mar-2007; DatasheetVersion: Aug-2006; PackageVersion: Dec-1996; PackageReference: PZ100; Publisher: Altium Limited; PackageDescription: 100-Pin Thin Quad Flat Pack 0.5 mm Pitch; ComponentLink1Description: Manufacturer Link; ComponentLink1URL: http://www.ti.com/; ComponentLink2Description: Datasheet; ComponentLink2URL: http://focus.ti.com/lit/ds/symlink/tms470r1a288.pdf
footprint PZ100_N (Thin QFP, 100-Leads, Body 14x14mm, Pitch 0.5mm, IPC Medium Density)
footprint PZ100_L (Thin QFP, 100-Leads, Body 14x14mm, Pitch 0.5mm, IPC High Density)
footprint PZ100_M (Thin QFP, 100-Leads, Body 14x14mm, Pitch 0.5mm, IPC Low Density)
part A pins: 26 GIOH[4]/EBADDR[26]/EBADDR[18]/INT[12] (io), 27 GIOH[3]/EBADDR[25]/EBADDR[17]/INT[11] (io), 28 GIOH[2]/EBADDR[24]/EBADDR[16]/INT[10] (io), 29 GIOH[1]/EBADDR[23]/EBADDR[15]/INT[9] (io), 30 GIOB[0]/DMAREQ[0] (io), 55 GIOA[6]/INT[6] (io), 56 GIOA[7]/INT[7] (io), 67 GIOA[5]/INT[5] (io), 88 GIOH[5]/~{EBHOLD}/INT[13] (io), 89 GIOA[4]/INT[4] (io), 94 GIOA[3]/INT[3] (io), 95 GIOA[2]/INT[2] (io), 96 GIOA[1]/INT[1]/ECLK (io), 99 GIOA[0]/INT[0] (io)
part B pins: 6 HET[6] (io), 7 HET[7] (io), 8 HET[8] (io), 9 HET[18] (io), 12 HET[20] (io), 13 HET[22] (io), 44 HET[5] (io), 45 HET[4] (io), 46 HET[3] (io), 49 HET[2] (io), 50 HET[1] (io), 51 HET[0] (io), 69 ADIN[11] (in), 70 ADIN[10] (in), 71 ADIN[9] (in), 72 ADIN[8] (in), 73 ADIN[7] (in), 74 ADIN[6] (in), 75 ADIN[5] (in), 80 ADIN[4] (in), 81 ADIN[3] (in), 82 ADIN[2] (in), 83 ADIN[1] (in), 84 ADIN[0] (in)
part C pins: 1 ~{SPI1SCS} (io), 2 ~{SPI1ENA} (io), 3 SPI1CLK (io), 4 SPI1SIMO (io), 5 SPI1SOMI (io), 14 C2SILPN (io), 15 C2SIRX (io), 16 C2SITX (io), 19 I2C3SCL (io), 20 I2C3SDA (io), 22 OSCOUT (out), 23 OSCIN (in), 25 AWD (io), 31 SCI1TX (io), 32 SCI1RX (io), 33 SCI1CLK (io), 34 SCI2TX (io), 35 SCI2RX (io), 36 SCI2CLK (io), 37 CAN2SRX (io), 38 CAN2STX (io), 39 SPI2CLK (io), 40 SPI2SOMI (io), 41 SPI2SIMO (io), 42 ~{SPI2ENA} (io), 43 ~{SPI2SCS} (io), 57 CLKOUT (io), 58 CAN1SRX (io), 59 CAN1STX (io), 60 I2C1SDA (io), 61 I2C1SCL (io), 64 I2C2SDA (io), 65 I2C2SCL (io), 66 PLLDIS (in), 68 ADEVT (io), 76 ADREFHI (in), 77 ADREFLO (in), 85 ~{PORRST} (in), 86 ~{RST} (io), 87 TEST (in), 93 FLTP2
part D pins: 10 TMS2 (in), 11 TMS (in), 52 TDI (in), 53 TDO (out), 54 TCK (in), 100 ~{TRST} (in)
part E pins: 17 VCCIO (power), 18 VSSIO (power), 21 VCC (power), 24 VSS (power), 47 VSSIO (power), 48 VCCIO (power), 62 VSS (power), 63 VCC (power), 78 VCCAD (power), 79 VSSAD (power), 90 VSS (power), 91 VCC (power), 92 VCCP (power), 97 VCCIO (power), 98 VSSIO (power)

## TMS470R1A384PGET
designator U?
ARM7TDMI 16/32-Bit RISC Industrial MCU, 384KB Flash, 32KB RAM, 144-pin LQFP, -40ºC to 105ºC, Pb-Free; Published: 30-Mar-2007; DatasheetVersion: Aug-2006; PackageVersion: Dec-1996; PackageReference: PGE144; Publisher: Altium Limited; PackageDescription: 144-Pin Thin Quad Flat Pack 0.5 mm Pitch; ComponentLink1Description: Manufacturer Link; ComponentLink1URL: http://www.ti.com/; ComponentLink2Description: Datasheet; ComponentLink2URL: http://focus.ti.com/lit/ds/symlink/tms470r1a384.pdf
footprint PGE144_N (Thin QFP, 144-Leads, Body 20x20mm, Pitch 0.5mm, IPC Medium Density)
footprint PGE144_L (Thin QFP, 144-Leads, Body 20x20mm, Pitch 0.5mm, IPC High Density)
footprint PGE144_M (Thin QFP, 144-Leads, Body 20x20mm, Pitch 0.5mm, IPC Low Density)
part A pins: 3 GIOG[4]/EBADDR[18]/EBADDR[10] (io), 6 GIOG[3]/EBADDR[17]/EBADDR[9] (io), 8 GIOG[2]/EBADDR[16]/EBADDR[8] (io), 10 GIOG[1]/EBADDR[15]/EBADDR[7] (io), 20 GIOG[0]/EBADDR[14]/EBADDR[6] (io), 23 GIOD[5]/EBADDR[5] (io), 27 GIOD[4]/EBADDR[4] (io), 30 GIOD[3]/EBADDR[3] (io), 35 GIOD[2]/EBADDR[2] (io), 37 GIOH[4]/EBADDR[26]/EBADDR[18] (io), 38 GIOH[3]/EBADDR[25]/EBADDR[17] (io), 39 GIOD[1]/EBADDR[1] (io), 40 GIOH[2]/EBADDR[24]/EBADDR[16] (io), 41 GIOH[1]/EBADDR[23]/EBADDR[15] (io), 42 GIOD[0]/EBADDR[0] (io), 43 GIOB[0]/DMAREQ[0] (io), 44 GIOE[0]/EBDATA[0] (io), 47 GIOE[1]/EBDATA[1] (io), 58 GIOE[2]/EBDATA[2] (io), 61 GIOE[3]/EBDATA[3] (io), 64 GIOE[4]/EBDATA[4] (io), 67 GIOE[5]/EBDATA[5] (io), 70 GIOE[6]/EBDATA[6] (io), 77 GIOE[7]/EBDATA[7] (io), 78 GIOA[6]/INT[6] (io), 79 GIOA[7]/INT[7] (io), 80 GIOF[0]/EBADDR[6]/EBDATA[8] (io), 82 GIOF[1]/EBADDR[7]/EBDATA[9] (io), 89 GIOF[2]/EBADDR[8]/EBDATA[10] (io), 90 GIOF[3]/EBADDR[9]/EBDATA[11] (io), 93 GIOF[4]/EBADDR[10]/EBDATA[12] (io), 96 GIOF[5]/EBADDR[11]/EBDATA[13] (io), 98 GIOA[5]/INT[5] (io), 99 GIOF[6]/EBADDR[12]/EBDATA[14] (io), 100 GIOF[7]/EBADDR[13]/EBDATA[15] (io), 119 GIOC[4]/~{EBCS}[6] (io), 120 GIOC[3]/~{EBCS}[5] (io), 125 GIOH[5]/~{EBHOLD} (io), 126 GIOC[2]/~{EBWR}[1] (io), 127 GIOA[4]/INT[4] (io), 128 GIOC[1]/~{EBWR}[0] (io), 133 GIOA[3]/INT[3] (io), 134 GIOA[2]/INT[2] (io), 135 GIOC[0]/~{EBOE} (io), 136 GIOA[1]/INT[1]/ECLK (io), 139 GIOH[0]/EBADDR[22]/EBADDR[14] (io), 140 GIOG[7]/EBADDR[21]/EBADDR[13] (io), 141 GIOA[0]/INT[0] (io), 142 GIOG[6]/EBADDR[20]/EBADDR[12] (io), 143 GIOG[5]/EBADDR[19]/EBADDR[11] (io)
part B pins: 9 HET[6] (io), 11 HET[7] (io), 12 HET[8] (io), 15 HET[18] (io), 18 HET[20] (io), 19 HET[22] (io), 63 HET[5] (io), 65 HET[4] (io), 66 HET[3] (io), 71 HET[2] (io), 72 HET[1] (io), 73 HET[0] (io), 102 ADIN[11] (in), 103 ADIN[10] (in), 104 ADIN[9] (in), 105 ADIN[8] (in), 106 ADIN[7] (in), 107 ADIN[6] (in), 108 ADIN[5] (in), 113 ADIN[4] (in), 114 ADIN[3] (in), 115 ADIN[2] (in), 116 ADIN[1] (in), 117 ADIN[0] (in)
part C pins: 1 ~{SPI1SCS} (io), 2 ~{SPI1ENA} (io), 4 SPI1CLK (io), 5 SPI1SIMO (io), 7 SPI1SOMI (io), 21 C2SILPN (io), 22 C2SIRX (io), 24 C2SITX (io), 28 I2C3SCL (io), 29 I2C3SDA (io), 32 OSCOUT (out), 33 OSCIN (in), 36 AWD (io), 45 SCI1TX (io), 46 SCI1RX (io), 48 SCI1CLK (io), 49 SCI2TX (io), 50 SCI2RX (io), 51 SCI2CLK (io), 54 CAN2SRX (io), 55 CAN2STX (io), 56 SPI2CLK (io), 57 SPI2SOMI (io), 59 SPI2SIMO (io), 60 ~{SPI2ENA} (io), 62 ~{SPI2SCS} (io), 81 CLKOUT (io), 83 CAN1SRX (io), 84 CAN1STX (io), 87 I2C1SDA (io), 88 I2C1SCL (io), 94 I2C2SDA (io), 95 I2C2SCL (io), 97 PLLDIS (in), 101 ADEVT (io), 109 ADREFHI (in), 110 ADREFLO (in), 118 ~{PORRST} (in), 121 ~{RST} (io), 124 TEST (in), 132 FLTP2
part D pins: 16 TMS2 (in), 17 TMS (in), 74 TDI (in), 75 TDO (out), 76 TCK (in), 144 ~{TRST} (in)
part E pins: 13 VCC (power), 14 VSS (power), 25 VCCIO (power), 26 VSS (power), 31 VCC (power), 34 VSS (power), 52 VSS (power), 53 VCC (power), 68 VSS (power), 69 VCCIO (power), 85 VSS (power), 86 VCCIO (power), 91 VSS (power), 92 VCC (power), 111 VCCAD (power), 112 VSSAD (power), 122 VSS (power), 123 VCC (power), 129 VSS (power), 130 VCC (power), 131 VCCP (power), 137 VCCIO (power), 138 VSS (power)

## TMS470R1A384PZ-T
designator U?
ARM7TDMI 16/32-Bit RISC Industrial MCU, 384KB Flash, 32KB RAM, 100-pin LQFP, -40ºC to 105ºC, Pb-Free; Published: 30-Mar-2007; DatasheetVersion: Aug-2006; PackageVersion: Dec-1996; PackageReference: PZ100; Publisher: Altium Limited; PackageDescription: 100-Pin Thin Quad Flat Pack 0.5 mm Pitch; ComponentLink1Description: Manufacturer Link; ComponentLink1URL: http://www.ti.com/; ComponentLink2Description: Datasheet; ComponentLink2URL: http://focus.ti.com/lit/ds/symlink/tms470r1a384.pdf
footprint PZ100_N (Thin QFP, 100-Leads, Body 14x14mm, Pitch 0.5mm, IPC Medium Density)
footprint PZ100_L (Thin QFP, 100-Leads, Body 14x14mm, Pitch 0.5mm, IPC High Density)
footprint PZ100_M (Thin QFP, 100-Leads, Body 14x14mm, Pitch 0.5mm, IPC Low Density)
part A pins: 26 GIOH[4]/EBADDR[26]/EBADDR[18] (io), 27 GIOH[3]/EBADDR[25]/EBADDR[17] (io), 28 GIOH[2]/EBADDR[24]/EBADDR[16] (io), 29 GIOH[1]/EBADDR[23]/EBADDR[15] (io), 30 GIOB[0]/DMAREQ[0] (io), 55 GIOA[6]/INT[6] (io), 56 GIOA[7]/INT[7] (io), 67 GIOA[5]/INT[5] (io), 88 GIOH[5]/~{EBHOLD} (io), 89 GIOA[4]/INT[4] (io), 94 GIOA[3]/INT[3] (io), 95 GIOA[2]/INT[2] (io), 96 GIOA[1]/INT[1]/ECLK (io), 99 GIOA[0]/INT[0] (io)
part B pins: 6 HET[6] (io), 7 HET[7] (io), 8 HET[8] (io), 9 HET[18] (io), 12 HET[20] (io), 13 HET[22] (io), 44 HET[5] (io), 45 HET[4] (io), 46 HET[3] (io), 49 HET[2] (io), 50 HET[1] (io), 51 HET[0] (io), 69 ADIN[11] (in), 70 ADIN[10] (in), 71 ADIN[9] (in), 72 ADIN[8] (in), 73 ADIN[7] (in), 74 ADIN[6] (in), 75 ADIN[5] (in), 80 ADIN[4] (in), 81 ADIN[3] (in), 82 ADIN[2] (in), 83 ADIN[1] (in), 84 ADIN[0] (in)
part C pins: 1 ~{SPI1SCS} (io), 2 ~{SPI1ENA} (io), 3 SPI1CLK (io), 4 SPI1SIMO (io), 5 SPI1SOMI (io), 14 C2SILPN (io), 15 C2SIRX (io), 16 C2SITX (io), 19 I2C3SCL (io), 20 I2C3SDA (io), 22 OSCOUT (out), 23 OSCIN (in), 25 AWD (io), 31 SCI1TX (io), 32 SCI1RX (io), 33 SCI1CLK (io), 34 SCI2TX (io), 35 SCI2RX (io), 36 SCI2CLK (io), 37 CAN2SRX (io), 38 CAN2STX (io), 39 SPI2CLK (io), 40 SPI2SOMI (io), 41 SPI2SIMO (io), 42 ~{SPI2ENA} (io), 43 ~{SPI2SCS} (io), 57 CLKOUT (io), 58 CAN1SRX (io), 59 CAN1STX (io), 60 I2C1SDA (io), 61 I2C1SCL (io), 64 I2C2SDA (io), 65 I2C2SCL (io), 66 PLLDIS (in), 68 ADEVT (io), 76 ADREFHI (in), 77 ADREFLO (in), 85 ~{PORRST} (in), 86 ~{RST} (io), 87 TEST (in), 93 FLTP2
part D pins: 10 TMS2 (in), 11 TMS (in), 52 TDI (in), 53 TDO (out), 54 TCK (in), 100 ~{TRST} (in)
part E pins: 17 VCCIO (power), 18 VSS (power), 21 VCC (power), 24 VSS (power), 47 VSS (power), 48 VCCIO (power), 62 VSS (power), 63 VCC (power), 78 VCCAD (power), 79 VSSAD (power), 90 VSS (power), 91 VCC (power), 92 VCCP (power), 97 VCCIO (power), 98 VSS (power)

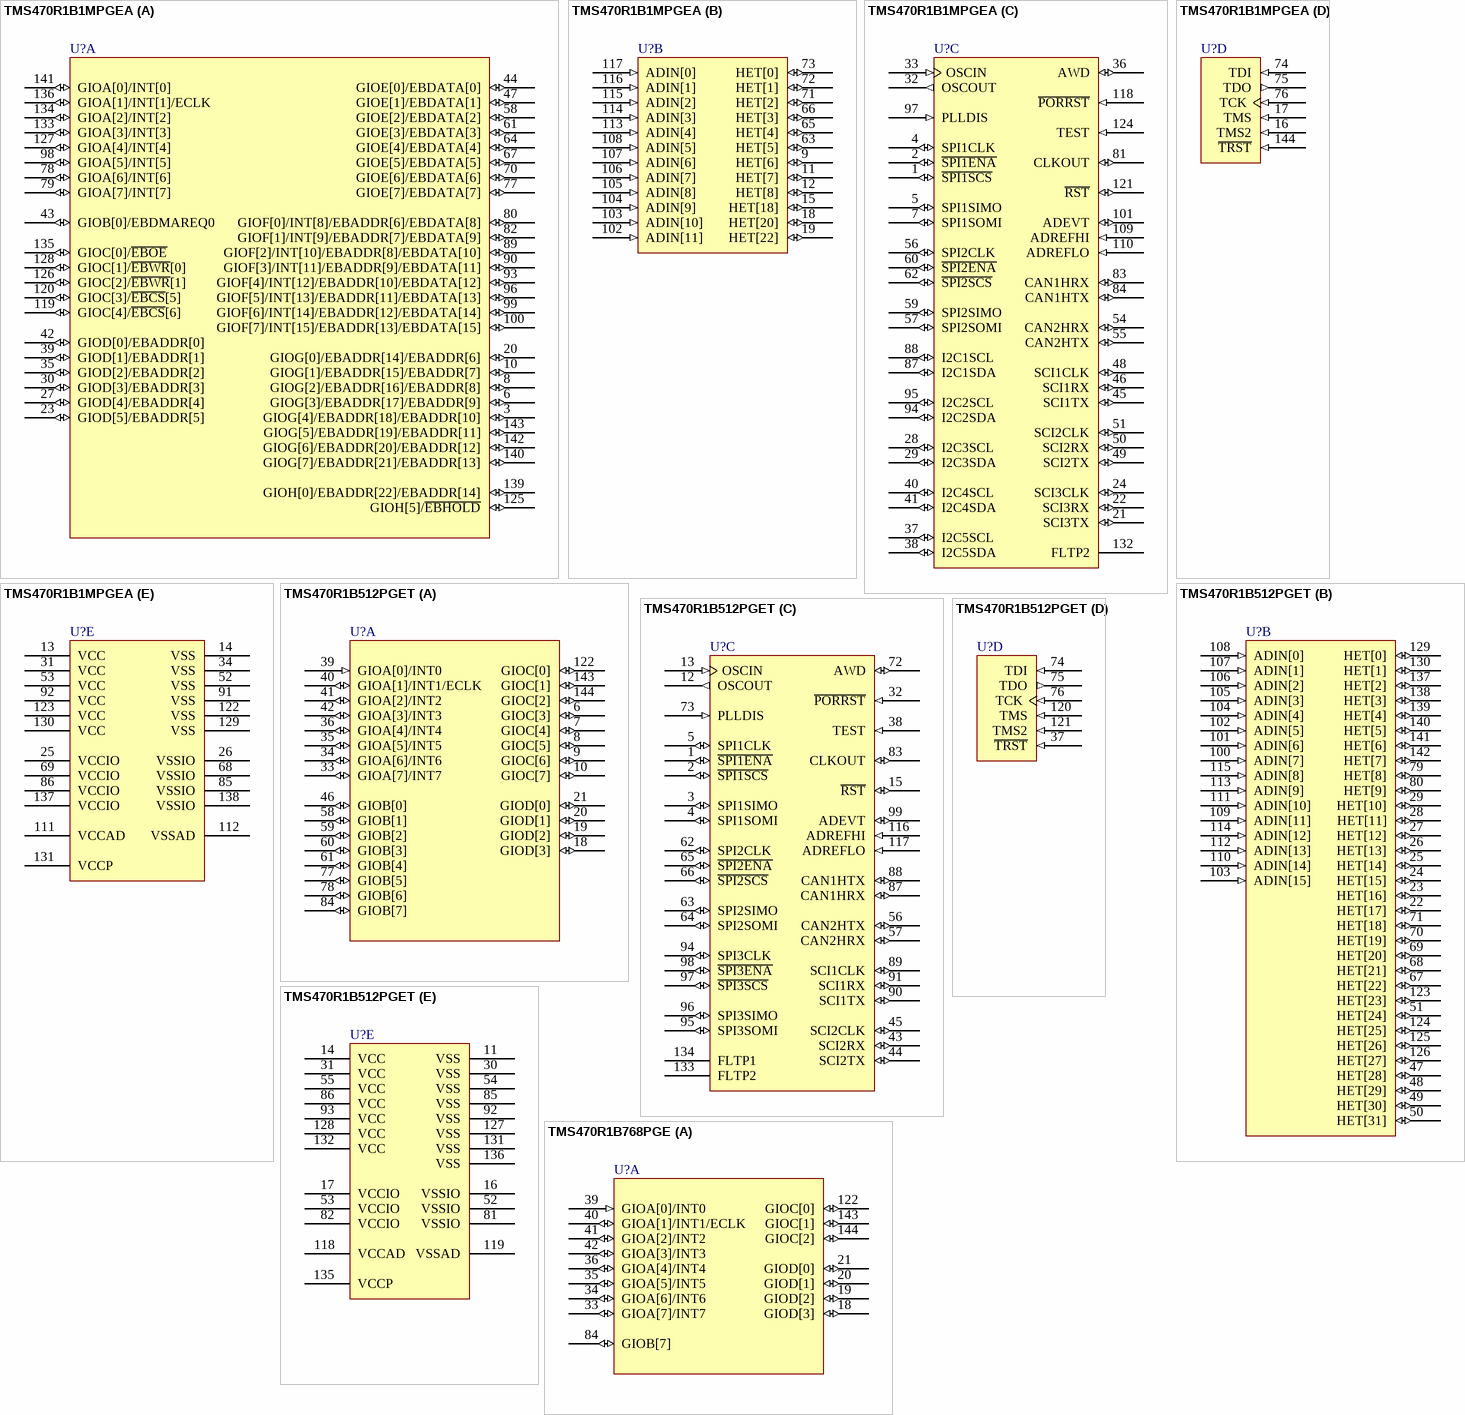
[diagram p9: symbols TMS470R1B1MPGEA to TMS470R1B768PGE]

## TMS470R1B1MPGEA
designator U?
ARM7TDMI 16/32-Bit RISC Industrial MCU, 1024KB Flash, 64KB RAM, 144-pin LQFP, -40ºC to 85ºC, Pb-Free; Note: The CANSRX and CANSTX signals are only connected to pad and not to package pins.; Published: 30-Mar-2007; DatasheetVersion: Aug-2006; PackageVersion: Dec-1996; PackageReference: PGE144; Publisher: Altium Limited; PackageDescription: 144-Pin Thin Quad Flat Pack 0.5 mm Pitch; ComponentLink1Description: Manufacturer Link; ComponentLink1URL: http://www.ti.com/; ComponentLink2Description: Datasheet; ComponentLink2URL: http://focus.ti.com/lit/ds/symlink/tms470r1b1m.pdf
footprint PGE144_N (Thin QFP, 144-Leads, Body 20x20mm, Pitch 0.5mm, IPC Medium Density)
footprint PGE144_L (Thin QFP, 144-Leads, Body 20x20mm, Pitch 0.5mm, IPC High Density)
footprint PGE144_M (Thin QFP, 144-Leads, Body 20x20mm, Pitch 0.5mm, IPC Low Density)
part A pins: 3 GIOG[4]/EBADDR[18]/EBADDR[10] (io), 6 GIOG[3]/EBADDR[17]/EBADDR[9] (io), 8 GIOG[2]/EBADDR[16]/EBADDR[8] (io), 10 GIOG[1]/EBADDR[15]/EBADDR[7] (io), 20 GIOG[0]/EBADDR[14]/EBADDR[6] (io), 23 GIOD[5]/EBADDR[5] (io), 27 GIOD[4]/EBADDR[4] (io), 30 GIOD[3]/EBADDR[3] (io), 35 GIOD[2]/EBADDR[2] (io), 39 GIOD[1]/EBADDR[1] (io), 42 GIOD[0]/EBADDR[0] (io), 43 GIOB[0]/EBDMAREQ0 (io), 44 GIOE[0]/EBDATA[0] (io), 47 GIOE[1]/EBDATA[1] (io), 58 GIOE[2]/EBDATA[2] (io), 61 GIOE[3]/EBDATA[3] (io), 64 GIOE[4]/EBDATA[4] (io), 67 GIOE[5]/EBDATA[5] (io), 70 GIOE[6]/EBDATA[6] (io), 77 GIOE[7]/EBDATA[7] (io), 78 GIOA[6]/INT[6] (io), 79 GIOA[7]/INT[7] (io), 80 GIOF[0]/INT[8]/EBADDR[6]/EBDATA[8] (io), 82 GIOF[1]/INT[9]/EBADDR[7]/EBDATA[9] (io), 89 GIOF[2]/INT[10]/EBADDR[8]/EBDATA[10] (io), 90 GIOF[3]/INT[11]/EBADDR[9]/EBDATA[11] (io), 93 GIOF[4]/INT[12]/EBADDR[10]/EBDATA[12] (io), 96 GIOF[5]/INT[13]/EBADDR[11]/EBDATA[13] (io), 98 GIOA[5]/INT[5] (io), 99 GIOF[6]/INT[14]/EBADDR[12]/EBDATA[14] (io), 100 GIOF[7]/INT[15]/EBADDR[13]/EBDATA[15] (io), 119 GIOC[4]/~{EBCS}[6] (io), 120 GIOC[3]/~{EBCS}[5] (io), 125 GIOH[5]/~{EBHOLD} (io), 126 GIOC[2]/~{EBWR}[1] (io), 127 GIOA[4]/INT[4] (io), 128 GIOC[1]/~{EBWR}[0] (io), 133 GIOA[3]/INT[3] (io), 134 GIOA[2]/INT[2] (io), 135 GIOC[0]/~{EBOE} (io), 136 GIOA[1]/INT[1]/ECLK (io), 139 GIOH[0]/EBADDR[22]/EBADDR[14] (io), 140 GIOG[7]/EBADDR[21]/EBADDR[13] (io), 141 GIOA[0]/INT[0] (io), 142 GIOG[6]/EBADDR[20]/EBADDR[12] (io), 143 GIOG[5]/EBADDR[19]/EBADDR[11] (io)
part B pins: 9 HET[6] (io), 11 HET[7] (io), 12 HET[8] (io), 15 HET[18] (io), 18 HET[20] (io), 19 HET[22] (io), 63 HET[5] (io), 65 HET[4] (io), 66 HET[3] (io), 71 HET[2] (io), 72 HET[1] (io), 73 HET[0] (io), 102 ADIN[11] (in), 103 ADIN[10] (in), 104 ADIN[9] (in), 105 ADIN[8] (in), 106 ADIN[7] (in), 107 ADIN[6] (in), 108 ADIN[5] (in), 113 ADIN[4] (in), 114 ADIN[3] (in), 115 ADIN[2] (in), 116 ADIN[1] (in), 117 ADIN[0] (in)
part C pins: 1 ~{SPI1SCS} (io), 2 ~{SPI1ENA} (io), 4 SPI1CLK (io), 5 SPI1SIMO (io), 7 SPI1SOMI (io), 21 SCI3TX (io), 22 SCI3RX (io), 24 SCI3CLK (io), 28 I2C3SCL (io), 29 I2C3SDA (io), 32 OSCOUT (out), 33 OSCIN (in), 36 AWD (io), 37 I2C5SCL (io), 38 I2C5SDA (io), 40 I2C4SCL (io), 41 I2C4SDA (io), 45 SCI1TX (io), 46 SCI1RX (io), 48 SCI1CLK (io), 49 SCI2TX (io), 50 SCI2RX (io), 51 SCI2CLK (io), 54 CAN2HRX (io), 55 CAN2HTX (io), 56 SPI2CLK (io), 57 SPI2SOMI (io), 59 SPI2SIMO (io), 60 ~{SPI2ENA} (io), 62 ~{SPI2SCS} (io), 81 CLKOUT (io), 83 CAN1HRX (io), 84 CAN1HTX (io), 87 I2C1SDA (io), 88 I2C1SCL (io), 94 I2C2SDA (io), 95 I2C2SCL (io), 97 PLLDIS (in), 101 ADEVT (io), 109 ADREFHI (in), 110 ADREFLO (in), 118 ~{PORRST} (in), 121 ~{RST} (io), 124 TEST (in), 132 FLTP2
part D pins: 16 TMS2 (in), 17 TMS (in), 74 TDI (in), 75 TDO (out), 76 TCK (in), 144 ~{TRST} (in)
part E pins: 13 VCC (power), 14 VSS (power), 25 VCCIO (power), 26 VSSIO (power), 31 VCC (power), 34 VSS (power), 52 VSS (power), 53 VCC (power), 68 VSSIO (power), 69 VCCIO (power), 85 VSSIO (power), 86 VCCIO (power), 91 VSS (power), 92 VCC (power), 111 VCCAD (power), 112 VSSAD (power), 122 VSS (power), 123 VCC (power), 129 VSS (power), 130 VCC (power), 131 VCCP (power), 137 VCCIO (power), 138 VSSIO (power)

## TMS470R1B512PGET
designator U?
ARM7TDMI 16/32-Bit RISC Industrial MCU, 512KB Flash, 32KB RAM, 144-pin LQFP, -40ºC to 105ºC, Pb-Free; Published: 30-Mar-2007; DatasheetVersion: Aug-2006; PackageVersion: Dec-1996; PackageReference: PGE144; Publisher: Altium Limited; PackageDescription: 144-Pin Thin Quad Flat Pack 0.5 mm Pitch; ComponentLink1Description: Manufacturer Link; ComponentLink1URL: http://www.ti.com/; ComponentLink2Description: Datasheet; ComponentLink2URL: http://focus.ti.com/lit/ds/symlink/tms470r1b512.pdf
footprint PGE144_N (Thin QFP, 144-Leads, Body 20x20mm, Pitch 0.5mm, IPC Medium Density)
footprint PGE144_L (Thin QFP, 144-Leads, Body 20x20mm, Pitch 0.5mm, IPC High Density)
footprint PGE144_M (Thin QFP, 144-Leads, Body 20x20mm, Pitch 0.5mm, IPC Low Density)
part A pins: 6 GIOC[3] (io), 7 GIOC[4] (io), 8 GIOC[5] (io), 9 GIOC[6] (io), 10 GIOC[7] (io), 18 GIOD[3] (io), 19 GIOD[2] (io), 20 GIOD[1] (io), 21 GIOD[0] (io), 33 GIOA[7]/INT7 (io), 34 GIOA[6]/INT6 (io), 35 GIOA[5]/INT5 (io), 36 GIOA[4]/INT4 (io), 39 GIOA[0]/INT0 (in), 40 GIOA[1]/INT1/ECLK (io), 41 GIOA[2]/INT2 (io), 42 GIOA[3]/INT3 (io), 46 GIOB[0] (io), 58 GIOB[1] (io), 59 GIOB[2] (io), 60 GIOB[3] (io), 61 GIOB[4] (io), 77 GIOB[5] (io), 78 GIOB[6] (io), 84 GIOB[7] (io), 122 GIOC[0] (io), 143 GIOC[1] (io), 144 GIOC[2] (io)
part B pins: 22 HET[17] (io), 23 HET[16] (io), 24 HET[15] (io), 25 HET[14] (io), 26 HET[13] (io), 27 HET[12] (io), 28 HET[11] (io), 29 HET[10] (io), 47 HET[28] (io), 48 HET[29] (io), 49 HET[30] (io), 50 HET[31] (io), 51 HET[24] (io), 67 HET[22] (io), 68 HET[21] (io), 69 HET[20] (io), 70 HET[19] (io), 71 HET[18] (io), 79 HET[8] (io), 80 HET[9] (io), 100 ADIN[7] (in), 101 ADIN[6] (in), 102 ADIN[5] (in), 103 ADIN[15] (in), 104 ADIN[4] (in), 105 ADIN[3] (in), 106 ADIN[2] (in), 107 ADIN[1] (in), 108 ADIN[0] (in), 109 ADIN[11] (in), 110 ADIN[14] (in), 111 ADIN[10] (in), 112 ADIN[13] (in), 113 ADIN[9] (in), 114 ADIN[12] (in), 115 ADIN[8] (in), 123 HET[23] (io), 124 HET[25] (io), 125 HET[26] (io), 126 HET[27] (io), 129 HET[0] (io), 130 HET[1] (io), 137 HET[2] (io), 138 HET[3] (io), 139 HET[4] (io), 140 HET[5] (io), 141 HET[6] (io), 142 HET[7] (io)
part C pins: 1 ~{SPI1ENA} (io), 2 ~{SPI1SCS} (io), 3 SPI1SIMO (io), 4 SPI1SOMI (io), 5 SPI1CLK (io), 12 OSCOUT (out), 13 OSCIN (in), 15 ~{RST} (io), 32 ~{PORRST} (in), 38 TEST (in), 43 SCI2RX (io), 44 SCI2TX (io), 45 SCI2CLK (io), 56 CAN2HTX (io), 57 CAN2HRX (io), 62 SPI2CLK (io), 63 SPI2SIMO (io), 64 SPI2SOMI (io), 65 ~{SPI2ENA} (io), 66 ~{SPI2SCS} (io), 72 AWD (io), 73 PLLDIS (in), 83 CLKOUT (io), 87 CAN1HRX (io), 88 CAN1HTX (io), 89 SCI1CLK (io), 90 SCI1TX (io), 91 SCI1RX (io), 94 SPI3CLK (io), 95 SPI3SOMI (io), 96 SPI3SIMO (io), 97 ~{SPI3SCS} (io), 98 ~{SPI3ENA} (io), 99 ADEVT (io), 116 ADREFHI (in), 117 ADREFLO (in), 133 FLTP2, 134 FLTP1
part D pins: 37 ~{TRST} (in), 74 TDI (in), 75 TDO (out), 76 TCK (in), 120 TMS (in), 121 TMS2 (in)
part E pins: 11 VSS (power), 14 VCC (power), 16 VSSIO (power), 17 VCCIO (power), 30 VSS (power), 31 VCC (power), 52 VSSIO (power), 53 VCCIO (power), 54 VSS (power), 55 VCC (power), 81 VSSIO (power), 82 VCCIO (power), 85 VSS (power), 86 VCC (power), 92 VSS (power), 93 VCC (power), 118 VCCAD (power), 119 VSSAD (power), 127 VSS (power), 128 VCC (power), 131 VSS (power), 132 VCC (power), 135 VCCP (power), 136 VSS (power)

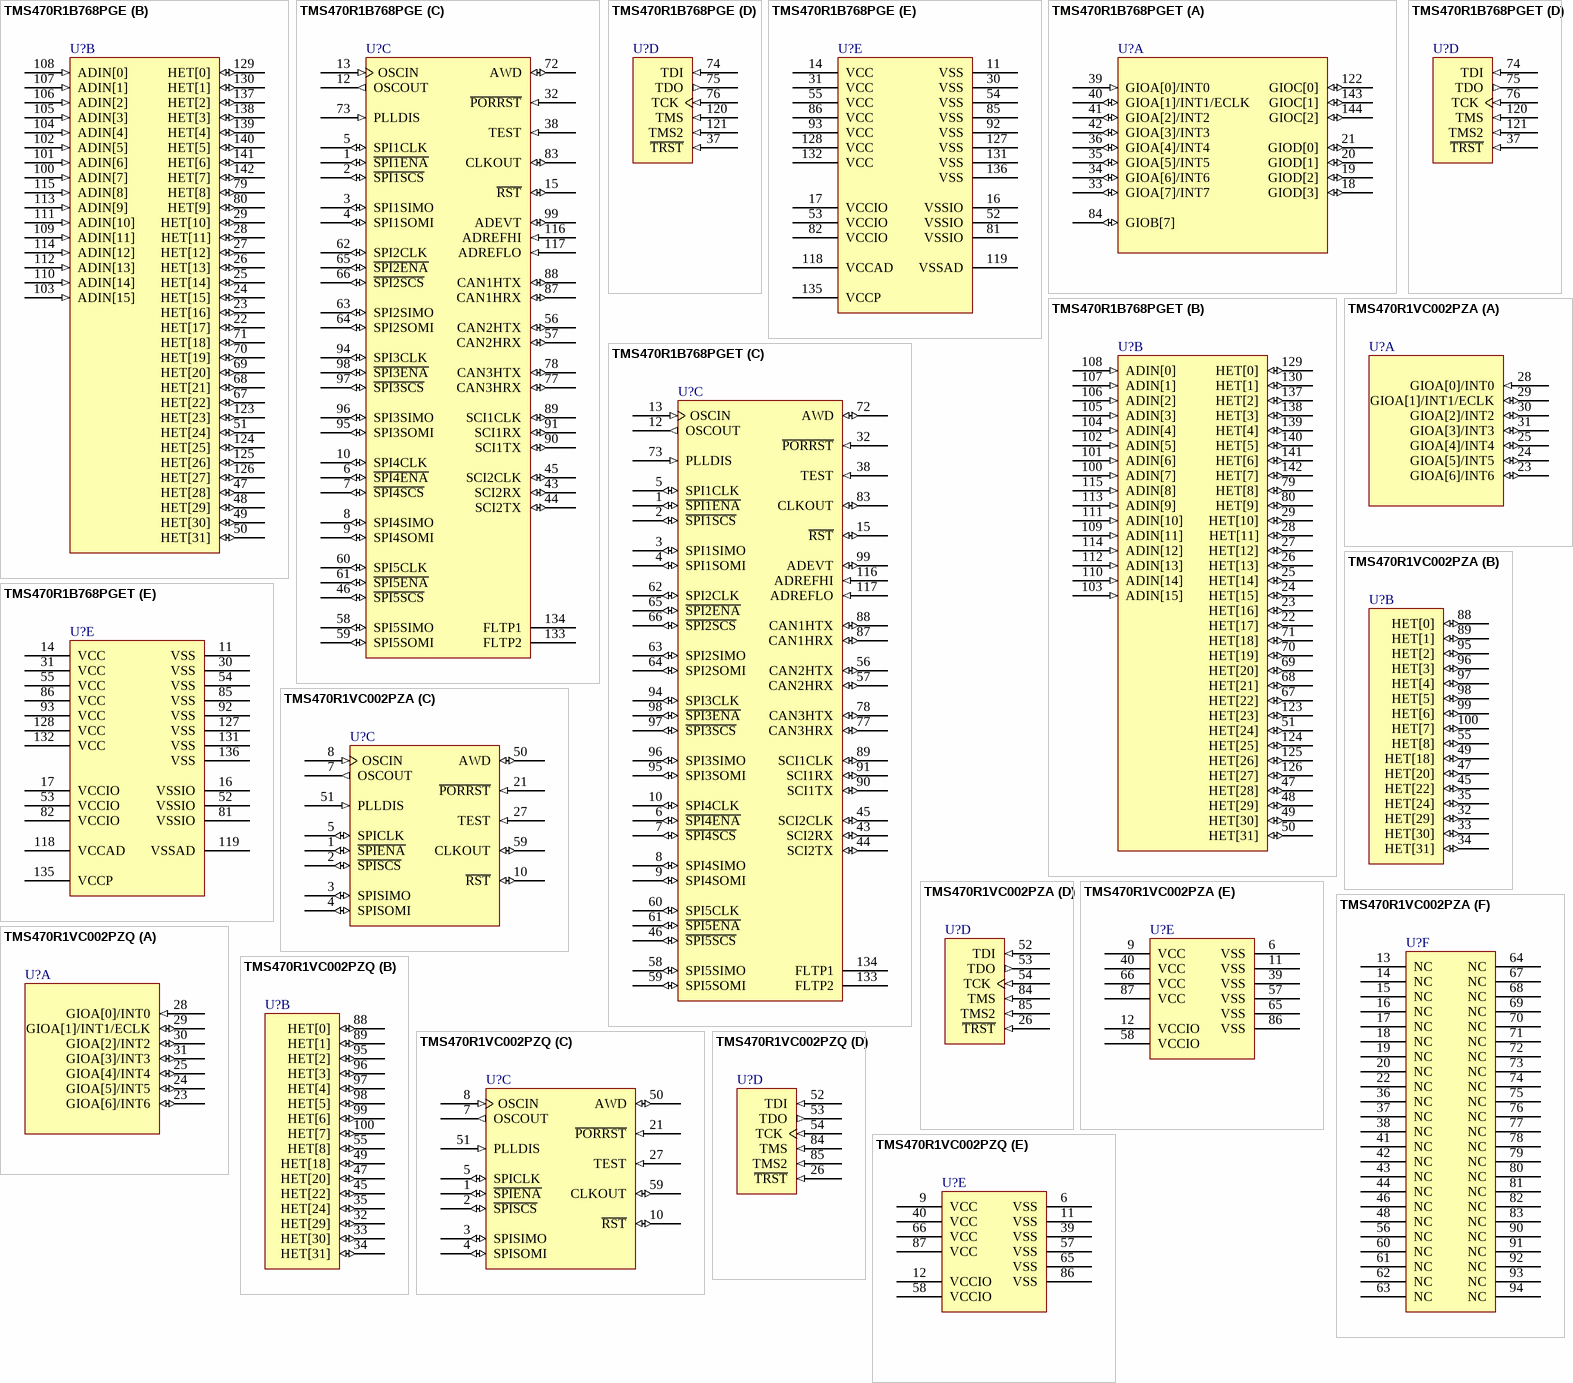
[diagram p10: symbols TMS470R1B768PGE to TMS470R1VC002PZQ]

## TMS470R1B768PGE
designator U?
ARM7TDMI 16/32-Bit RISC Industrial MCU, 768KB Flash, 48KB RAM, 144-pin LQFP; Published: 30-Mar-2007; DatasheetVersion: Aug-2006; PackageVersion: Dec-1996; PackageReference: PGE144; Publisher: Altium Limited; PackageDescription: 144-Pin Thin Quad Flat Pack 0.5 mm Pitch; ComponentLink1Description: Manufacturer Link; ComponentLink1URL: http://www.ti.com/; ComponentLink2Description: Datasheet; ComponentLink2URL: http://focus.ti.com/lit/ds/symlink/tms470r1b768.pdf
footprint PGE144_N (Thin QFP, 144-Leads, Body 20x20mm, Pitch 0.5mm, IPC Medium Density)
footprint PGE144_L (Thin QFP, 144-Leads, Body 20x20mm, Pitch 0.5mm, IPC High Density)
footprint PGE144_M (Thin QFP, 144-Leads, Body 20x20mm, Pitch 0.5mm, IPC Low Density)
part A pins: 18 GIOD[3] (io), 19 GIOD[2] (io), 20 GIOD[1] (io), 21 GIOD[0] (io), 33 GIOA[7]/INT7 (io), 34 GIOA[6]/INT6 (io), 35 GIOA[5]/INT5 (io), 36 GIOA[4]/INT4 (io), 39 GIOA[0]/INT0 (in), 40 GIOA[1]/INT1/ECLK (io), 41 GIOA[2]/INT2 (io), 42 GIOA[3]/INT3 (io), 84 GIOB[7] (io), 122 GIOC[0] (io), 143 GIOC[1] (io), 144 GIOC[2] (io)
part B pins: 22 HET[17] (io), 23 HET[16] (io), 24 HET[15] (io), 25 HET[14] (io), 26 HET[13] (io), 27 HET[12] (io), 28 HET[11] (io), 29 HET[10] (io), 47 HET[28] (io), 48 HET[29] (io), 49 HET[30] (io), 50 HET[31] (io), 51 HET[24] (io), 67 HET[22] (io), 68 HET[21] (io), 69 HET[20] (io), 70 HET[19] (io), 71 HET[18] (io), 79 HET[8] (io), 80 HET[9] (io), 100 ADIN[7] (in), 101 ADIN[6] (in), 102 ADIN[5] (in), 103 ADIN[15] (in), 104 ADIN[4] (in), 105 ADIN[3] (in), 106 ADIN[2] (in), 107 ADIN[1] (in), 108 ADIN[0] (in), 109 ADIN[11] (in), 110 ADIN[14] (in), 111 ADIN[10] (in), 112 ADIN[13] (in), 113 ADIN[9] (in), 114 ADIN[12] (in), 115 ADIN[8] (in), 123 HET[23] (io), 124 HET[25] (io), 125 HET[26] (io), 126 HET[27] (io), 129 HET[0] (io), 130 HET[1] (io), 137 HET[2] (io), 138 HET[3] (io), 139 HET[4] (io), 140 HET[5] (io), 141 HET[6] (io), 142 HET[7] (io)
part C pins: 1 ~{SPI1ENA} (io), 2 ~{SPI1SCS} (io), 3 SPI1SIMO (io), 4 SPI1SOMI (io), 5 SPI1CLK (io), 6 ~{SPI4ENA} (io), 7 ~{SPI4SCS} (io), 8 SPI4SIMO (io), 9 SPI4SOMI (io), 10 SPI4CLK (io), 12 OSCOUT (out), 13 OSCIN (in), 15 ~{RST} (io), 32 ~{PORRST} (in), 38 TEST (in), 43 SCI2RX (io), 44 SCI2TX (io), 45 SCI2CLK (io), 46 ~{SPI5SCS} (io), 56 CAN2HTX (io), 57 CAN2HRX (io), 58 SPI5SIMO (io), 59 SPI5SOMI (io), 60 SPI5CLK (io), 61 ~{SPI5ENA} (io), 62 SPI2CLK (io), 63 SPI2SIMO (io), 64 SPI2SOMI (io), 65 ~{SPI2ENA} (io), 66 ~{SPI2SCS} (io), 72 AWD (io), 73 PLLDIS (in), 77 CAN3HRX (io), 78 CAN3HTX (io), 83 CLKOUT (io), 87 CAN1HRX (io), 88 CAN1HTX (io), 89 SCI1CLK (io), 90 SCI1TX (io), 91 SCI1RX (io), 94 SPI3CLK (io), 95 SPI3SOMI (io), 96 SPI3SIMO (io), 97 ~{SPI3SCS} (io), 98 ~{SPI3ENA} (io), 99 ADEVT (io), 116 ADREFHI (in), 117 ADREFLO (in), 133 FLTP2, 134 FLTP1
part D pins: 37 ~{TRST} (in), 74 TDI (in), 75 TDO (out), 76 TCK (in), 120 TMS (in), 121 TMS2 (in)
part E pins: 11 VSS (power), 14 VCC (power), 16 VSSIO (power), 17 VCCIO (power), 30 VSS (power), 31 VCC (power), 52 VSSIO (power), 53 VCCIO (power), 54 VSS (power), 55 VCC (power), 81 VSSIO (power), 82 VCCIO (power), 85 VSS (power), 86 VCC (power), 92 VSS (power), 93 VCC (power), 118 VCCAD (power), 119 VSSAD (power), 127 VSS (power), 128 VCC (power), 131 VSS (power), 132 VCC (power), 135 VCCP (power), 136 VSS (power)

## TMS470R1B768PGET
designator U?
ARM7TDMI 16/32-Bit RISC Industrial MCU, 768KB Flash, 48KB RAM, 144-pin LQFP, -40ºC to 125ºC; Published: 30-Mar-2007; DatasheetVersion: Aug-2006; PackageVersion: Dec-1996; PackageReference: PGE144; Publisher: Altium Limited; PackageDescription: 144-Pin Thin Quad Flat Pack 0.5 mm Pitch; ComponentLink1Description: Manufacturer Link; ComponentLink1URL: http://www.ti.com/; ComponentLink2Description: Datasheet; ComponentLink2URL: http://focus.ti.com/lit/ds/symlink/tms470r1b768.pdf
footprint PGE144_N (Thin QFP, 144-Leads, Body 20x20mm, Pitch 0.5mm, IPC Medium Density)
footprint PGE144_L (Thin QFP, 144-Leads, Body 20x20mm, Pitch 0.5mm, IPC High Density)
footprint PGE144_M (Thin QFP, 144-Leads, Body 20x20mm, Pitch 0.5mm, IPC Low Density)
part A pins: 18 GIOD[3] (io), 19 GIOD[2] (io), 20 GIOD[1] (io), 21 GIOD[0] (io), 33 GIOA[7]/INT7 (io), 34 GIOA[6]/INT6 (io), 35 GIOA[5]/INT5 (io), 36 GIOA[4]/INT4 (io), 39 GIOA[0]/INT0 (in), 40 GIOA[1]/INT1/ECLK (io), 41 GIOA[2]/INT2 (io), 42 GIOA[3]/INT3 (io), 84 GIOB[7] (io), 122 GIOC[0] (io), 143 GIOC[1] (io), 144 GIOC[2] (io)
part B pins: 22 HET[17] (io), 23 HET[16] (io), 24 HET[15] (io), 25 HET[14] (io), 26 HET[13] (io), 27 HET[12] (io), 28 HET[11] (io), 29 HET[10] (io), 47 HET[28] (io), 48 HET[29] (io), 49 HET[30] (io), 50 HET[31] (io), 51 HET[24] (io), 67 HET[22] (io), 68 HET[21] (io), 69 HET[20] (io), 70 HET[19] (io), 71 HET[18] (io), 79 HET[8] (io), 80 HET[9] (io), 100 ADIN[7] (in), 101 ADIN[6] (in), 102 ADIN[5] (in), 103 ADIN[15] (in), 104 ADIN[4] (in), 105 ADIN[3] (in), 106 ADIN[2] (in), 107 ADIN[1] (in), 108 ADIN[0] (in), 109 ADIN[11] (in), 110 ADIN[14] (in), 111 ADIN[10] (in), 112 ADIN[13] (in), 113 ADIN[9] (in), 114 ADIN[12] (in), 115 ADIN[8] (in), 123 HET[23] (io), 124 HET[25] (io), 125 HET[26] (io), 126 HET[27] (io), 129 HET[0] (io), 130 HET[1] (io), 137 HET[2] (io), 138 HET[3] (io), 139 HET[4] (io), 140 HET[5] (io), 141 HET[6] (io), 142 HET[7] (io)
part C pins: 1 ~{SPI1ENA} (io), 2 ~{SPI1SCS} (io), 3 SPI1SIMO (io), 4 SPI1SOMI (io), 5 SPI1CLK (io), 6 ~{SPI4ENA} (io), 7 ~{SPI4SCS} (io), 8 SPI4SIMO (io), 9 SPI4SOMI (io), 10 SPI4CLK (io), 12 OSCOUT (out), 13 OSCIN (in), 15 ~{RST} (io), 32 ~{PORRST} (in), 38 TEST (in), 43 SCI2RX (io), 44 SCI2TX (io), 45 SCI2CLK (io), 46 ~{SPI5SCS} (io), 56 CAN2HTX (io), 57 CAN2HRX (io), 58 SPI5SIMO (io), 59 SPI5SOMI (io), 60 SPI5CLK (io), 61 ~{SPI5ENA} (io), 62 SPI2CLK (io), 63 SPI2SIMO (io), 64 SPI2SOMI (io), 65 ~{SPI2ENA} (io), 66 ~{SPI2SCS} (io), 72 AWD (io), 73 PLLDIS (in), 77 CAN3HRX (io), 78 CAN3HTX (io), 83 CLKOUT (io), 87 CAN1HRX (io), 88 CAN1HTX (io), 89 SCI1CLK (io), 90 SCI1TX (io), 91 SCI1RX (io), 94 SPI3CLK (io), 95 SPI3SOMI (io), 96 SPI3SIMO (io), 97 ~{SPI3SCS} (io), 98 ~{SPI3ENA} (io), 99 ADEVT (io), 116 ADREFHI (in), 117 ADREFLO (in), 133 FLTP2, 134 FLTP1
part D pins: 37 ~{TRST} (in), 74 TDI (in), 75 TDO (out), 76 TCK (in), 120 TMS (in), 121 TMS2 (in)
part E pins: 11 VSS (power), 14 VCC (power), 16 VSSIO (power), 17 VCCIO (power), 30 VSS (power), 31 VCC (power), 52 VSSIO (power), 53 VCCIO (power), 54 VSS (power), 55 VCC (power), 81 VSSIO (power), 82 VCCIO (power), 85 VSS (power), 86 VCC (power), 92 VSS (power), 93 VCC (power), 118 VCCAD (power), 119 VSSAD (power), 127 VSS (power), 128 VCC (power), 131 VSS (power), 132 VCC (power), 135 VCCP (power), 136 VSS (power)

## TMS470R1VC002PZA
designator U?
ARM7TDMI 16/32-Bit RISC Automotive MCU, 32KB ROM, 2.5KB RAM, 100-pin LQFP, -40ºC to 85ºC; Published: 30-Mar-2007; DatasheetVersion: Oct-2002; PackageVersion: Dec-1996; PackageReference: PZ100; Publisher: Altium Limited; PackageDescription: 100-Pin Thin Quad Flat Pack 0.5 mm Pitch; ComponentLink1Description: Manufacturer Link; ComponentLink1URL: http://www.ti.com/; ComponentLink2Description: Datasheet; ComponentLink2URL: http://focus.ti.com/lit/ds/symlink/tms470r1vc002.pdf
footprint PZ100_N (Thin QFP, 100-Leads, Body 14x14mm, Pitch 0.5mm, IPC Medium Density)
footprint PZ100_L (Thin QFP, 100-Leads, Body 14x14mm, Pitch 0.5mm, IPC High Density)
footprint PZ100_M (Thin QFP, 100-Leads, Body 14x14mm, Pitch 0.5mm, IPC Low Density)
part A pins: 23 GIOA[6]/INT6 (io), 24 GIOA[5]/INT5 (io), 25 GIOA[4]/INT4 (io), 28 GIOA[0]/INT0 (in), 29 GIOA[1]/INT1/ECLK (io), 30 GIOA[2]/INT2 (io), 31 GIOA[3]/INT3 (io)
part B pins: 32 HET[29] (io), 33 HET[30] (io), 34 HET[31] (io), 35 HET[24] (io), 45 HET[22] (io), 47 HET[20] (io), 49 HET[18] (io), 55 HET[8] (io), 88 HET[0] (io), 89 HET[1] (io), 95 HET[2] (io), 96 HET[3] (io), 97 HET[4] (io), 98 HET[5] (io), 99 HET[6] (io), 100 HET[7] (io)
part C pins: 1 ~{SPIENA} (io), 2 ~{SPISCS} (io), 3 SPISIMO (io), 4 SPISOMI (io), 5 SPICLK (io), 7 OSCOUT (out), 8 OSCIN (in), 10 ~{RST} (io), 21 ~{PORRST} (in), 27 TEST (in), 50 AWD (io), 51 PLLDIS (in), 59 CLKOUT (io)
part D pins: 26 ~{TRST} (in), 52 TDI (in), 53 TDO (out), 54 TCK (in), 84 TMS (in), 85 TMS2 (in) "Serial input for controlling the second TAP. For proper operation, this pin must be connected to VCC or not connected."
part E pins: 6 VSS (power), 9 VCC (power), 11 VSS (power), 12 VCCIO (power), 39 VSS (power), 40 VCC (power), 57 VSS (power), 58 VCCIO (power), 65 VSS (power), 66 VCC (power), 86 VSS (power), 87 VCC (power)
part F pins: 13 NC, 14 NC, 15 NC, 16 NC, 17 NC, 18 NC, 19 NC, 20 NC, 22 NC, 36 NC, 37 NC, 38 NC, 41 NC, 42 NC, 43 NC, 44 NC, 46 NC, 48 NC, 56 NC, 60 NC, 61 NC, 62 NC, 63 NC, 64 NC, 67 NC, 68 NC, 69 NC, 70 NC, 71 NC, 72 NC, 73 NC, 74 NC, 75 NC, 76 NC, 77 NC, 78 NC, 79 NC, 80 NC, 81 NC, 82 NC, 83 NC, 90 NC, 91 NC, 92 NC, 93 NC, 94 NC

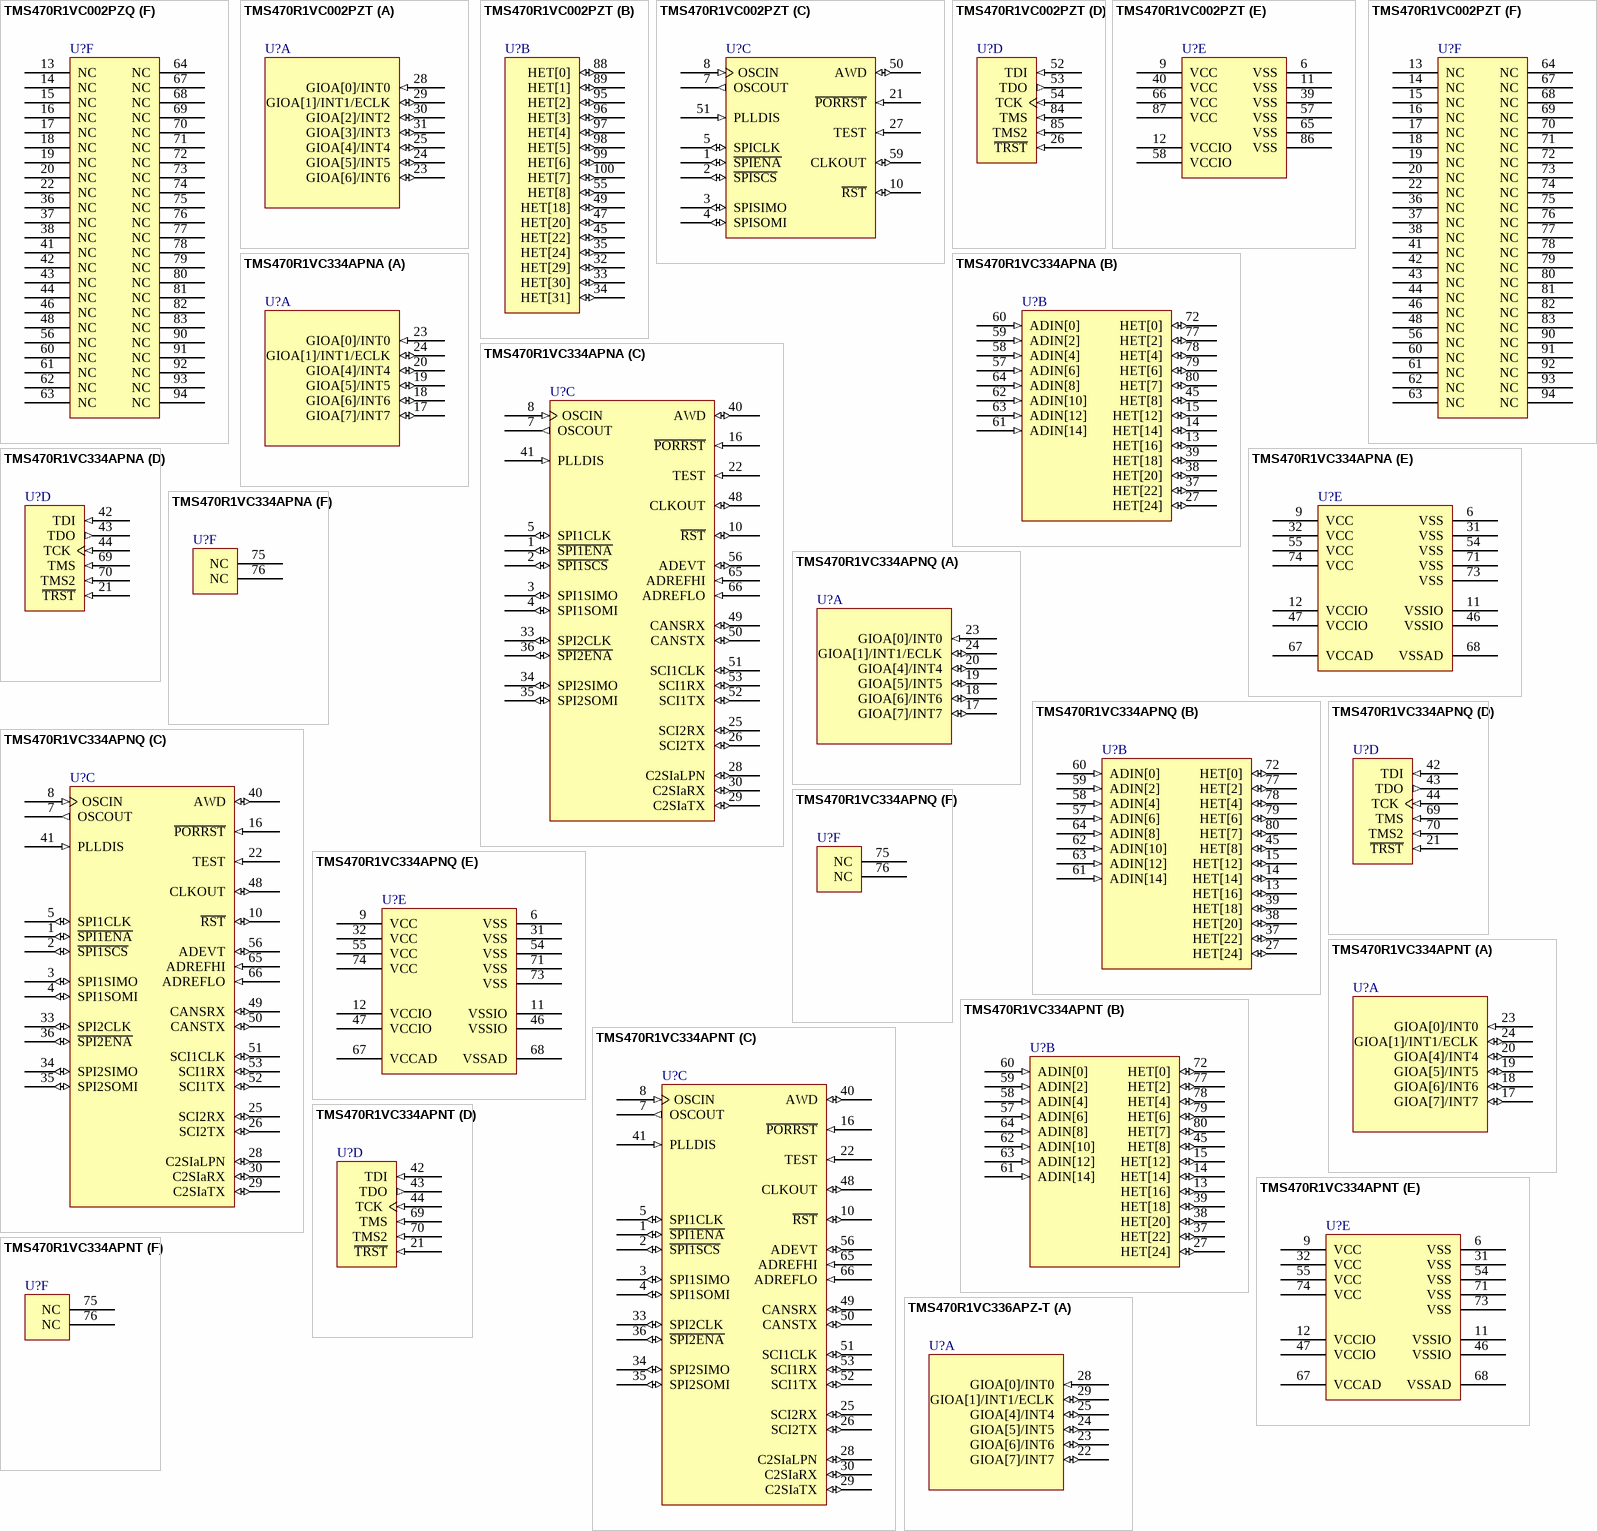
[diagram p11: symbols TMS470R1VC002PZQ to TMS470R1VC336APZ-T]